# Altium schematic symbol library SamacSys.SchLib: 1311 symbols (part 12 of 14)
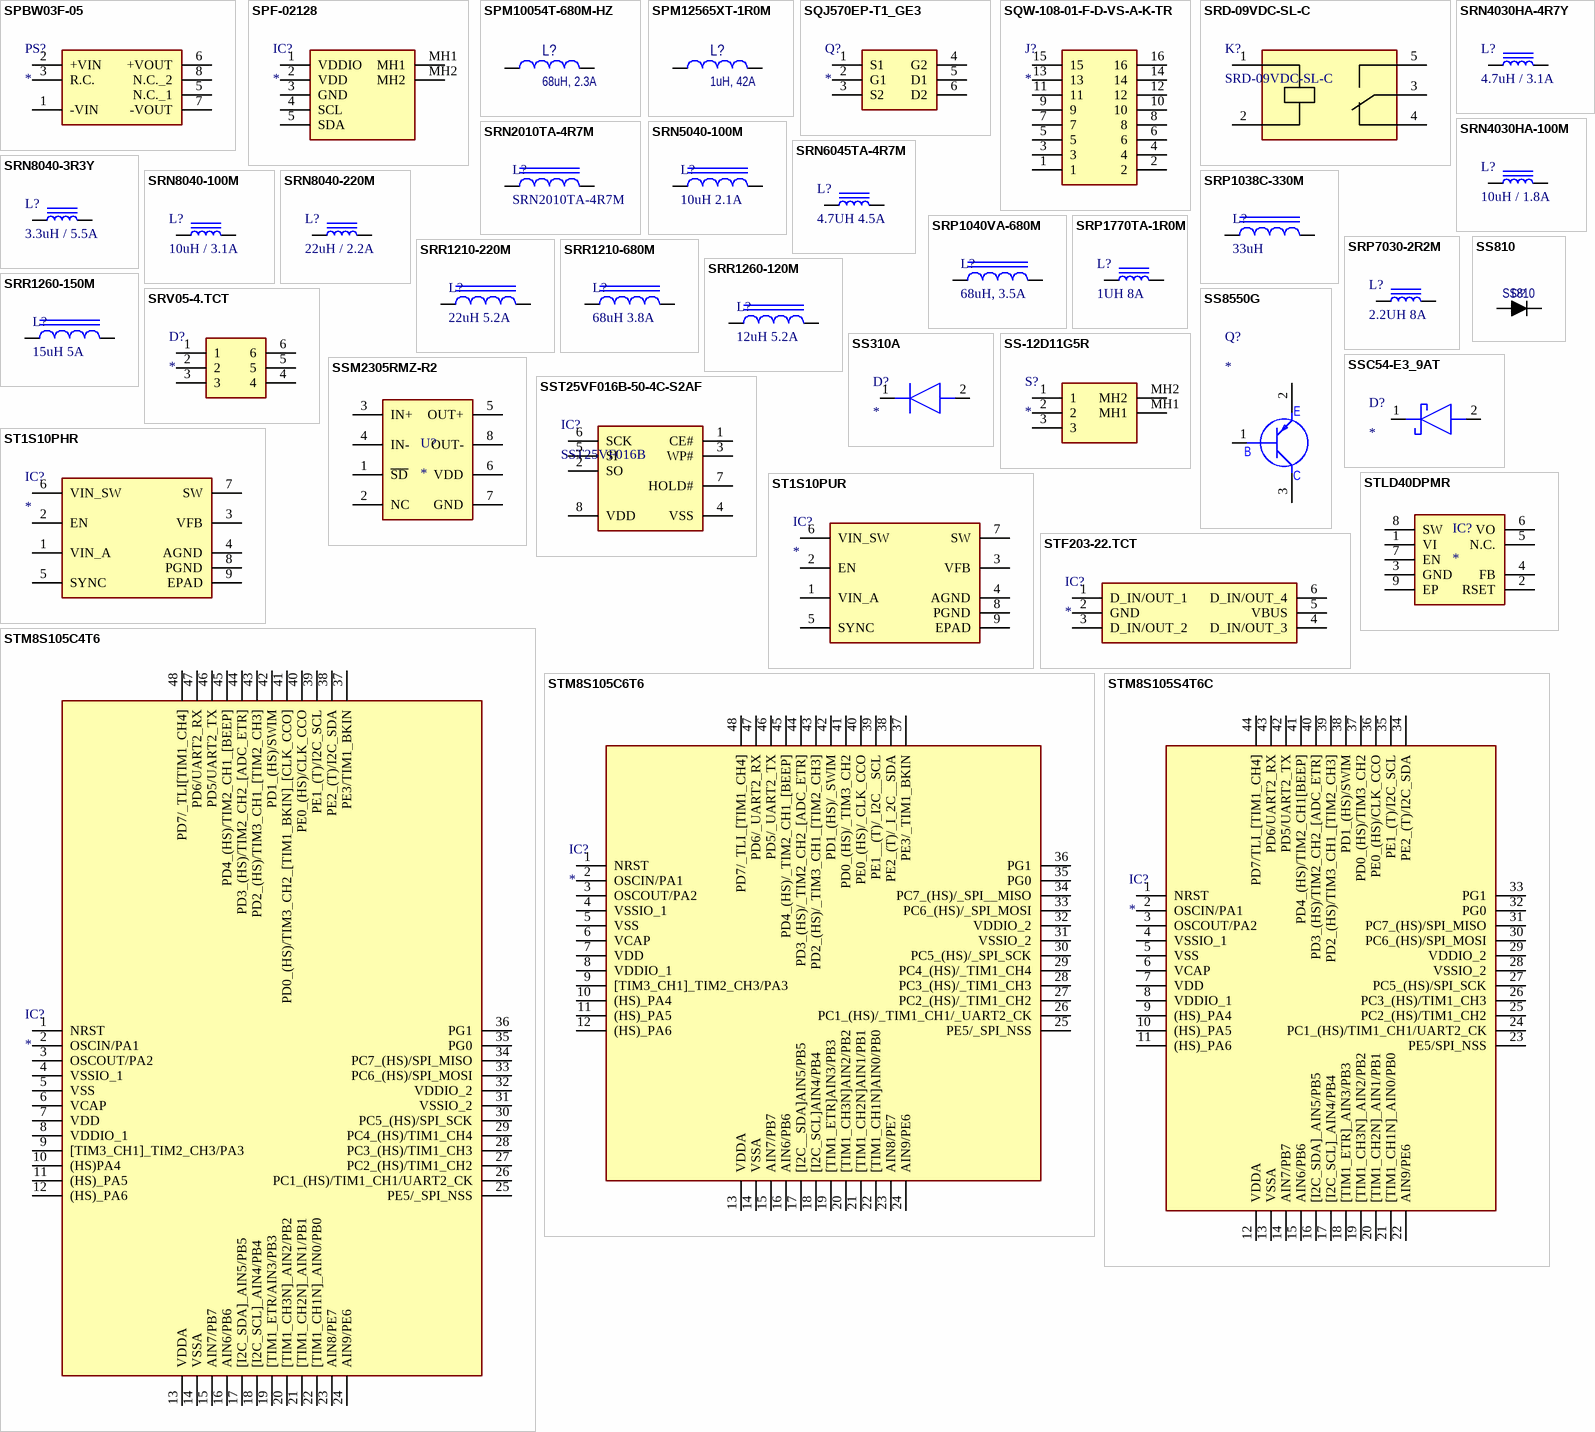
[diagram p61: symbols SPBW03F-05 to STM8S105S4T6C]

## SRN8040-220M
designator L?, comment 22uH / 2.2A
SMT Inductor, 22uH / 2.2A; Value: 22uH / 2.2A
footprint SRN8040
pins: 1, 2

## SRP1038C-330M
designator L?, comment 33uH
SMT Inductor, 33uH, 4A; Value: 33uH
footprint INDPM110100X420N
pins: 1, 2

## SRP1040VA-680M
designator L?, comment 68uH, 3.5A
SMT Inductor; Value: 68uH, 3.5A; Rated Current: 3.5A
footprint SRP1040VA-680M
pins: 1, 2

## SRP1770TA-1R0M
designator L?, comment 1UH 8A
FIXED IND 1UH 52A 0.016OHM SMD; Value: 1uH / 52A
footprint INDPM176169X700N
pins: 1, 2

## SRP7030-2R2M
designator L?, comment 2.2UH 8A
FIXED IND 2.2UH 8A 0.02OHM SMD; Value: 3.3uH / 5.5A
footprint INDPM7870X320N
pins: 1, 2

## SRR1210-220M
designator L?, comment 22uH 5.2A
SMT Inductor, 22uH 5.2A; Rated Current: 3.8A; Value: 22uH 5.2A
footprint SRR1210
pins: 1, 2

## SRR1210-680M
designator L?, comment 68uH 3.8A
SMT Inductor, 68uH 3.8A; Value: 68uH 3.8A; Rated Current: 3.8A
footprint SRR1210
pins: 1, 2

## SRR1260-120M
designator L?, comment 12uH 5.2A
SMT Inductor, 12uH 5.2A; Rated Current: 3.5A; Value: 12uH 5.2A
footprint SRR1260
pins: 1, 2

## SRR1260-150M
designator L?, comment 15uH 5A
SMT Inductor, 15uH 5A; Rated Current: 3.5A; Value: 15uH 5A
footprint SRR1260
pins: 1, 2

## SRV05-4.TCT
designator D?
TVS Diode (Uni-directional); Manufacturer_Name: SEMTECH; Manufacturer_Part_Number: SRV05-4.TCT; Datasheet Link: https://datasheet.datasheetarchive.com/originals/distributors/Datasheets-DGA26/1842016.pdf; Height: 1.45mm; Mouser Part Number: 947-SRV05-4.TCT; Mouser Price/Stock: https://www.mouser.co.uk/ProductDetail/Semtech/SRV05-4.TCT?qs=rBWM4%252BvDhIe0tfPjqKjR5Q%3D%3D; Arrow Part Number: SRV05-4.TCT; Arrow Price/Stock: https://www.arrow.com/en/products/srv05-4.tct/semtech?region=nac
footprint SOT95P280X145-6N
pins: 1, 2, 3, 4, 5, 6

## SS310A
designator D?
Diode; Manufacturer_Name: HY Electronic; Manufacturer_Part_Number: SS310A; Datasheet Link: https://4donline.ihs.com/images/VipMasterIC/IC/FECL/FECL-S-A0009071764/FECL-S-A0009071764-1.pdf?hkey=EF798316E3902B6ED9A73243A3159BB0; Height: 2.62mm
footprint DIOM5026X262N
pins: 1 K, 2 A

## SS810
designator D?, comment value SS810  (hidden comment: SK810)
DIODE SCHOTTKY 100V 8A DO214AB
footprint DO214AB
pins: 1 K, 2 A

## SS8550G
designator Q?
Transistor; Manufacturer_Name: Galaxy; Manufacturer_Part_Number: SS8550G; Height: 1.1mm
footprint SOT95P240X110-3N
pins: 1 B, 2 EMITTER, 3 COLLECTOR
text: E; C

## SS-12D11G5R
designator S?
Switch; Manufacturer_Name: XKB Connectivity; Manufacturer_Part_Number: SS-12D11G5R; Datasheet Link: http://www.helloxkb.com/public/images/pdf/SS-12D11XXX.pdf; Height: 6.9mm
footprint SS12D11G5R
pins: 1, 2, 3, MH1, MH2

## SSC54-E3_9AT
designator D?
Schottky Diode; Manufacturer_Name: Vishay; Manufacturer_Part_Number: SSC54-E3/9AT; Datasheet Link: https://www.vishay.com/docs/88885/ssc53l.pdf; Height: 2.62mm; Mouser Part Number: 625-SSC54-E3/9AT; Mouser Price/Stock: https://www.mouser.co.uk/ProductDetail/Vishay-General-Semiconductor/SSC54-E3-9AT?qs=x2jpVgRnAtO3JJETlWjmEQ%3D%3D; Arrow Part Number: SSC54-E3/9AT; Arrow Price/Stock: https://www.arrow.com/en/products/ssc54-e39at/vishay
footprint DIOM7959X262N
pins: 1 K, 2 A

## SSM2305RMZ-R2
designator U?
Integrated Circuit; Manufacturer_Name: Analog Devices; Manufacturer_Part_Number: SSM2305RMZ-R2; Datasheet Link: http://docs-emea.rs-online.com/webdocs/0de2/0900766b80de257f.pdf; Height: 1.1mm; Mouser Part Number: 584-SSM2305RMZ-R2; Mouser Price/Stock: https://www.mouser.com/Search/Refine.aspx?Keyword=584-SSM2305RMZ-R2; Arrow Part Number: SSM2305RMZ-R2; Arrow Price/Stock: https://www.arrow.com/en/products/ssm2305rmz-r2/analog-devices
footprint SOP65P490X110-8N
pins: 1 ~{SD}, 2 NC, 3 IN+, 4 IN-, 5 OUT+, 6 VDD, 7 GND, 8 OUT-

## SST25VF016B-50-4C-S2AF
designator IC?, comment SST25VF016B
IC FLASH 16MBIT SPI 50MHZ 8SOIC; Manufacturer_Name: Microchip; Manufacturer_Part_Number: SST25VF016B-50-4C-S2AF; Datasheet Link: https://ww1.microchip.com/downloads/en/DeviceDoc/20005044C.pdf; Height: 2.16mm; Mouser Part Number: 579-25VF016B504CS2AF; Mouser Price/Stock: https://www.mouser.co.uk/ProductDetail/Microchip-Technology-Atmel/SST25VF016B-50-4C-S2AF?qs=1RUxC5ic%2FMrPBUCcCO13YA%3D%3D; Arrow Part Number: SST25VF016B-50-4C-S2AF; Arrow Price/Stock: https://www.arrow.com/en/products/sst25vf016b-50-4c-s2af/microchip-technology?region=nac
footprint SOIC127P790X216-8N
pins: 1 CE#, 2 SO, 3 WP#, 4 VSS, 5 SI, 6 SCK, 7 HOLD#, 8 VDD

## ST1S10PHR
designator IC?
Integrated Circuit; Manufacturer_Name: STMicroelectronics; Manufacturer_Part_Number: ST1S10PHR; Datasheet Link: https://www.st.com/resource/en/datasheet/cd00169322.pdf; Height: 1.7mm; Mouser Part Number: 511-ST1S10PHR; Mouser Price/Stock: https://www.mouser.co.uk/ProductDetail/STMicroelectronics/ST1S10PHR?qs=qolwYojYp3QSBN7PdO5xhg%3D%3D; Arrow Part Number: ST1S10PHR; Arrow Price/Stock: https://www.arrow.com/en/products/st1s10phr/stmicroelectronics?region=nac
footprint ST1S10PHR
pins: 1 VIN_A, 2 EN, 3 VFB, 4 AGND, 5 SYNC, 6 VIN_SW, 7 SW, 8 PGND, 9 EPAD

## ST1S10PUR
designator IC?
Integrated Circuit; Manufacturer_Name: STMicroelectronics; Manufacturer_Part_Number: ST1S10PUR; Datasheet Link: http://www.st.com/web/en/resource/technical/document/datasheet/CD00169322.pdf; Height: 1mm; Mouser Part Number: 511-ST1S10PUR; Mouser Price/Stock: https://www.mouser.co.uk/ProductDetail/STMicroelectronics/ST1S10PUR?qs=z4PnFkYVEVm5N8HB9vh9zg%3D%3D; Arrow Part Number: ST1S10PUR; Arrow Price/Stock: https://www.arrow.com/en/products/st1s10pur/stmicroelectronics?region=nac
footprint SON80P400X400X100-9N-D
pins: 1 VIN_A, 2 EN, 3 VFB, 4 AGND, 5 SYNC, 6 VIN_SW, 7 SW, 8 PGND, 9 EPAD

## STF203-22.TCT
designator IC?
Integrated Circuit; Manufacturer_Name: SEMTECH; Manufacturer_Part_Number: STF203-22.TCT; Datasheet Link: https://componentsearchengine.com/Datasheets/2/STF203-22.TCT.pdf; Height: 1.1mm; Mouser Part Number: 947-STF203-22.TCT; Mouser Price/Stock: https://www.mouser.co.uk/ProductDetail/Semtech/STF203-22.TCT?qs=rBWM4%252BvDhIeTztOOK5QEzg%3D%3D; Arrow Part Number: STF203-22.TCT; Arrow Price/Stock: https://www.arrow.com/en/products/stf203-22.tct/semtech?region=nac
footprint SOT65P210X110-6N
pins: 1 D_IN/OUT_1, 2 GND, 3 D_IN/OUT_2, 4 D_IN/OUT_3, 5 VBUS, 6 D_IN/OUT_4

## STLD40DPMR
designator IC?
Integrated Circuit; Manufacturer_Name: STMicroelectronics; Manufacturer_Part_Number: STLD40DPMR; Datasheet Link: https://www.st.com/resource/en/datasheet/stld40d.pdf; Height: 1mm; Mouser Part Number: 511-STLD40DPMR; Mouser Price/Stock: https://www.mouser.com/Search/Refine.aspx?Keyword=511-STLD40DPMR
footprint SON65P300X300X100-9N-D
pins: 1 VI, 2 RSET, 3 GND, 4 FB, 5 N.C., 6 VO, 7 EN, 8 SW, 9 EP

## STM8S105C4T6
designator IC?
Integrated Circuit; Manufacturer_Name: STMicroelectronics; Manufacturer_Part_Number: STM8S105C4T6; Datasheet Link: http://www.st.com/st-web-ui/static/active/en/resource/technical/document/datasheet/CD00200092.pdf; Height: 1.6mm; Mouser Part Number: 511-STM8S105C4T6; Mouser Price/Stock: https://www.mouser.co.uk/ProductDetail/STMicroelectronics/STM8S105C4T6?qs=YSp3DhtTcU2ynIfTxGtKOA%3D%3D; Arrow Part Number: STM8S105C4T6; Arrow Price/Stock: https://www.arrow.com/en/products/stm8s105c4t6/stmicroelectronics
footprint QFP50P900X900X160-48N
pins: 1 NRST, 2 OSCIN/PA1, 3 OSCOUT/PA2, 4 VSSIO_1, 5 VSS, 6 VCAP, 7 VDD, 8 VDDIO_1, 9 [TIM3_CH1]_TIM2_CH3/PA3, 10 (HS)PA4, 11 (HS)_PA5, 12 (HS)_PA6, 13 VDDA, 14 VSSA, 15 AIN7/PB7, 16 AIN6/PB6, 17 [I2C_SDA]_AIN5/PB5, 18 [I2C_SCL]_AIN4/PB4, 19 [TIM1_ETR/AIN3/PB3, 20 [TIM1_CH3N]_AIN2/PB2, 21 [TIM1_CH2N]_AIN1/PB1, 22 [TIM1_CH1N]_AIN0/PB0, 23 AIN8/PE7, 24 AIN9/PE6, 25 PE5/_SPI_NSS, 26 PC1_(HS)/TIM1_CH1/UART2_CK, 27 PC2_(HS)/TIM1_CH2, 28 PC3_(HS)/TIM1_CH3, 29 PC4_(HS)/TIM1_CH4, 30 PC5_(HS)/SPI_SCK, 31 VSSIO_2, 32 VDDIO_2, 33 PC6_(HS)/SPI_MOSI, 34 PC7_(HS)/SPI_MISO, 35 PG0, 36 PG1, 37 PE3/TIM1_BKIN, 38 PE2_(T)/I2C_SDA, 39 PE1_(T)/I2C_SCL, 40 PE0_(HS)/CLK_CCO, 41 PD0_(HS)/TIM3_CH2_[TIM1_BKIN]_[CLK_CCO], 42 PD1_(HS)/SWIM, 43 PD2_(HS)/TIM3_CH1_[TIM2_CH3], 44 PD3_(HS)/TIM2_CH2_[ADC_ETR], 45 PD4_(HS)/TIM2_CH1_[BEEP], 46 PD5/UART2_TX, 47 PD6/UART2_RX, 48 PD7/_TLI[TIM1_CH4]

## STM8S105C6T6
designator IC?
Integrated Circuit; Manufacturer_Name: STMicroelectronics; Manufacturer_Part_Number: STM8S105C6T6; Datasheet Link: http://www.st.com/st-web-ui/static/active/en/resource/technical/document/datasheet/CD00200092.pdf; Height: 1.6mm; Mouser Part Number: 511-STM8S105C6T6; Mouser Price/Stock: https://www.mouser.co.uk/ProductDetail/STMicroelectronics/STM8S105C6T6?qs=YSp3DhtTcU0dfkIK6kZojw%3D%3D; Arrow Part Number: STM8S105C6T6; Arrow Price/Stock: https://www.arrow.com/en/products/stm8s105c6t6/stmicroelectronics
footprint QFP50P900X900X160-48N
pins: 1 NRST, 2 OSCIN/PA1, 3 OSCOUT/PA2, 4 VSSIO_1, 5 VSS, 6 VCAP, 7 VDD, 8 VDDIO_1, 9 [TIM3_CH1]_TIM2_CH3/PA3, 10 (HS)_PA4, 11 (HS)_PA5, 12 (HS)_PA6, 13 VDDA, 14 VSSA, 15 AIN7/PB7, 16 AIN6/PB6, 17 [I2C__SDA]AIN5/PB5, 18 [I2C_SCL]AIN4/PB4, 19 [TIM1_ETR]AIN3/PB3, 20 [TIM1_CH3N]AIN2/PB2, 21 [TIM1_CH2N]AIN1/PB1, 22 [TIM1_CH1N]AIN0/PB0, 23 AIN8/PE7, 24 AIN9/PE6, 25 PE5/_SPI_NSS, 26 PC1_(HS)/_TIM1_CH1/_UART2_CK, 27 PC2_(HS)/_TIM1_CH2, 28 PC3_(HS)/_TIM1_CH3, 29 PC4_(HS)/_TIM1_CH4, 30 PC5_(HS)/_SPI_SCK, 31 VSSIO_2, 32 VDDIO_2, 33 PC6_(HS)/_SPI_MOSI, 34 PC7_(HS)/_SPI__MISO, 35 PG0, 36 PG1, 37 PE3/_TIM1_BKIN, 38 PE2_(T)/_I_2C__SDA, 39 PE1__(T)/_I2C__SCL, 40 PE0_(HS)/_CLK_CCO, 41 PD0_(HS)/_TIM3_CH2, 42 PD1_(HS)/_SWIM, 43 PD2_(HS)/_TIM3_CH1_[TIM2_CH3], 44 PD3_(HS)/_TIM2_CH2_[ADC_ETR], 45 PD4_(HS)/_TIM2_CH1_[BEEP], 46 PD5/_UART2_TX, 47 PD6/_UART2_RX, 48 PD7/_TLI_[TIM1_CH4]

## STM8S105S4T6C
designator IC?
Integrated Circuit; Manufacturer_Name: STMicroelectronics; Manufacturer_Part_Number: STM8S105S4T6C; Datasheet Link: http://www.st.com/st-web-ui/static/active/en/resource/technical/document/datasheet/CD00200092.pdf; Height: 1.6mm; Mouser Part Number: 511-STM8S105S4T6C; Mouser Price/Stock: https://www.mouser.co.uk/ProductDetail/STMicroelectronics/STM8S105S4T6C?qs=YSp3DhtTcU2lUfT6hUqWAg%3D%3D; Arrow Part Number: STM8S105S4T6C; Arrow Price/Stock: https://www.arrow.com/en/products/stm8s105s4t6c/stmicroelectronics
footprint QFP80P1200X1200X160-44N
pins: 1 NRST, 2 OSCIN/PA1, 3 OSCOUT/PA2, 4 VSSIO_1, 5 VSS, 6 VCAP, 7 VDD, 8 VDDIO_1, 9 (HS)_PA4, 10 (HS)_PA5, 11 (HS)_PA6, 12 VDDA, 13 VSSA, 14 AIN7/PB7, 15 AIN6/PB6, 16 [I2C_SDA]_AIN5/PB5, 17 [I2C_SCL]_AIN4/PB4, 18 [TIM1_ETR]_AIN3/PB3, 19 [TIM1_CH3N]_AIN2/PB2, 20 [TIM1_CH2N]_AIN1/PB1, 21 [TIM1_CH1N]_AIN0/PB0, 22 AIN9/PE6, 23 PE5/SPI_NSS, 24 PC1_(HS)/TIM1_CH1/UART2_CK, 25 PC2_(HS)/TIM1_CH2, 26 PC3_(HS)/TIM1_CH3, 27 PC5_(HS)/SPI_SCK, 28 VSSIO_2, 29 VDDIO_2, 30 PC6_(HS)/SPI_MOSI, 31 PC7_(HS)/SPI_MISO, 32 PG0, 33 PG1, 34 PE2_(T)/I2C_SDA, 35 PE1_(T)/I2C_SCL, 36 PE0_(HS)/CLK_CCO, 37 PD0_(HS)/TIM3_CH2, 38 PD1_(HS)/SWIM, 39 PD2_(HS)/TIM3_CH1_[TIM2_CH3], 40 PD3_(HS)/TIM2_CH2_[ADC_ETR], 41 PD4_(HS)/TIM2_CH1[BEEP], 42 PD5/UART2_TX, 43 PD6/UART2_RX, 44 PD7/TLI_[TIM1_CH4]

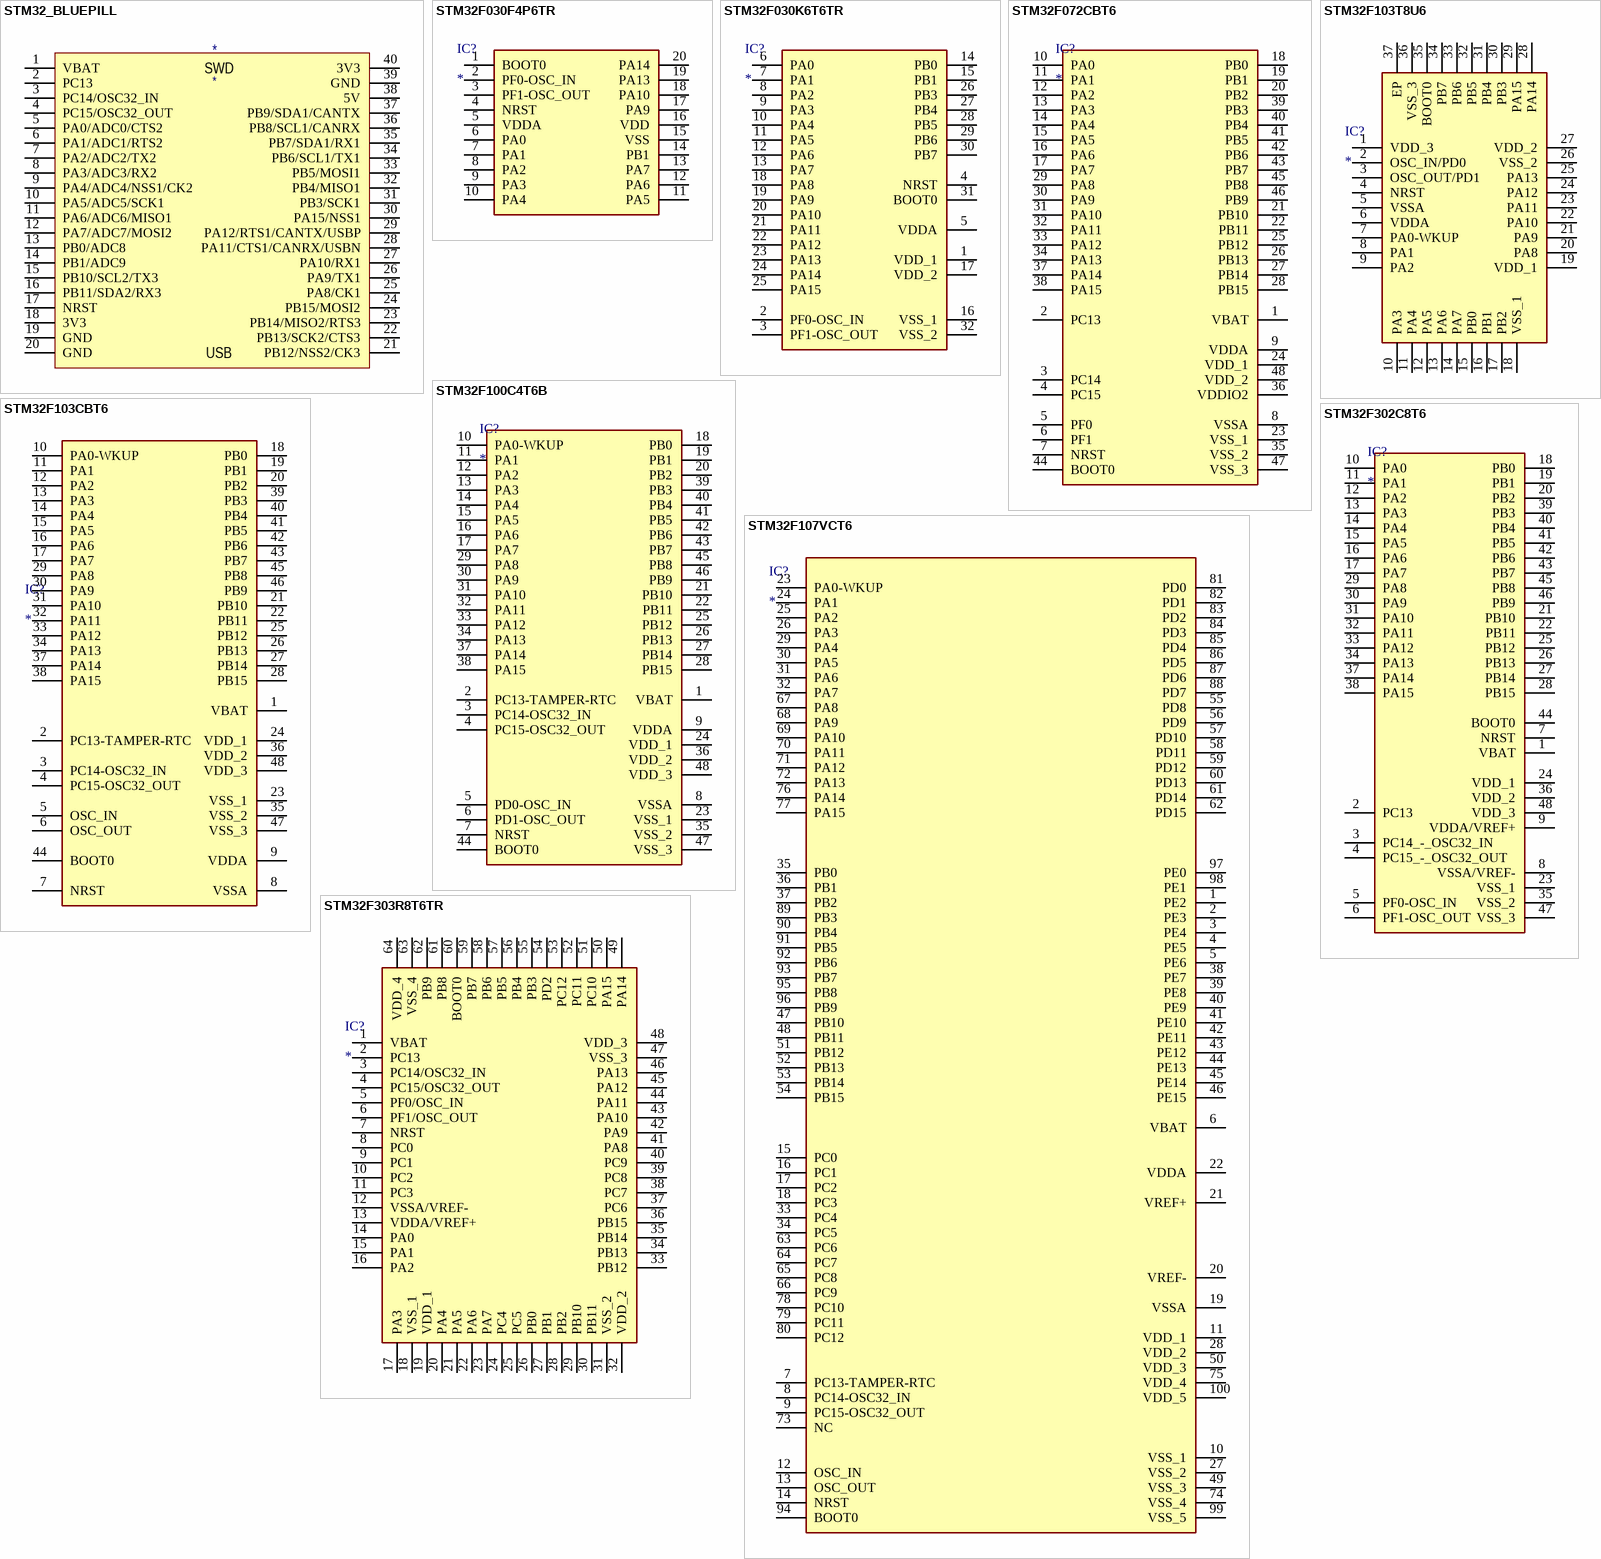
[diagram p41: symbols STM32_BLUEPILL to STM32F303R8T6TR]

## STM32_BLUEPILL
designator *
footprint STM32_BLUEPILL
pins: 1 VBAT, 2 PC13, 3 PC14/OSC32_IN, 4 PC15/OSC32_OUT, 5 PA0/ADC0/CTS2, 6 PA1/ADC1/RTS2, 7 PA2/ADC2/TX2, 8 PA3/ADC3/RX2, 9 PA4/ADC4/NSS1/CK2, 10 PA5/ADC5/SCK1, 11 PA6/ADC6/MISO1, 12 PA7/ADC7/MOSI2, 13 PB0/ADC8, 14 PB1/ADC9, 15 PB10/SCL2/TX3, 16 PB11/SDA2/RX3, 17 NRST, 18 3V3, 19 GND, 20 GND, 21 PB12/NSS2/CK3, 22 PB13/SCK2/CTS3, 23 PB14/MISO2/RTS3, 24 PB15/MOSI2, 25 PA8/CK1, 26 PA9/TX1, 27 PA10/RX1, 28 PA11/CTS1/CANRX/USBN, 29 PA12/RTS1/CANTX/USBP, 30 PA15/NSS1, 31 PB3/SCK1, 32 PB4/MISO1, 33 PB5/MOSI1, 34 PB6/SCL1/TX1, 35 PB7/SDA1/RX1, 36 PB8/SCL1/CANRX, 37 PB9/SDA1/CANTX, 38 5V, 39 GND, 40 3V3
text: SWD; USB

## STM32F030F4P6TR
designator IC?
Integrated Circuit; Manufacturer_Name: STMicroelectronics; Manufacturer_Part_Number: STM32F030F4P6TR; Datasheet Link: https://www.st.com/resource/en/datasheet/stm32f030rc.pdf; Height: 1.2mm; Mouser Part Number: 511-STM32F030F4P6TR; Mouser Price/Stock: https://www.mouser.co.uk/ProductDetail/STMicroelectronics/STM32F030F4P6TR?qs=MavH1QghrkE4yfyLOfvVsw%3D%3D; Arrow Part Number: STM32F030F4P6TR; Arrow Price/Stock: https://www.arrow.com/en/products/stm32f030f4p6tr/stmicroelectronics?utm_currency=USD&region=nac
footprint SOP65P640X120-20N
pins: 1 BOOT0, 2 PF0-OSC_IN, 3 PF1-OSC_OUT, 4 NRST, 5 VDDA, 6 PA0, 7 PA1, 8 PA2, 9 PA3, 10 PA4, 11 PA5, 12 PA6, 13 PA7, 14 PB1, 15 VSS, 16 VDD, 17 PA9, 18 PA10, 19 PA13, 20 PA14

## STM32F030K6T6TR
designator IC?
Integrated Circuit; Manufacturer_Name: STMicroelectronics; Manufacturer_Part_Number: STM32F030K6T6TR; Datasheet Link: http://www.st.com/content/ccc/resource/technical/document/datasheet/a4/5d/0b/0e/87/c4/4d/71/DM00088500.pdf/files/DM00088500.pdf/jcr:content/translations/en.DM00088500.pdf; Height: 1.6mm; Mouser Part Number: 511-STM32F030K6T6TR; Mouser Price/Stock: https://www.mouser.co.uk/ProductDetail/STMicroelectronics/STM32F030K6T6TR?qs=9MuLHSklicort60U4QZudQ%3D%3D; Arrow Part Number: STM32F030K6T6TR; Arrow Price/Stock: https://www.arrow.com/en/products/stm32f030k6t6tr/stmicroelectronics
footprint QFP80P900X900X160-32N
pins: 1 VDD_1, 2 PF0-OSC_IN, 3 PF1-OSC_OUT, 4 NRST, 5 VDDA, 6 PA0, 7 PA1, 8 PA2, 9 PA3, 10 PA4, 11 PA5, 12 PA6, 13 PA7, 14 PB0, 15 PB1, 16 VSS_1, 17 VDD_2, 18 PA8, 19 PA9, 20 PA10, 21 PA11, 22 PA12, 23 PA13, 24 PA14, 25 PA15, 26 PB3, 27 PB4, 28 PB5, 29 PB6, 30 PB7, 31 BOOT0, 32 VSS_2

## STM32F072CBT6
designator IC?
Integrated Circuit; Manufacturer_Name: STMicroelectronics; Manufacturer_Part_Number: STM32F072CBT6; Datasheet Link: http://www.farnell.com/datasheets/2006534.pdf; Height: 1.6mm; Mouser Part Number: 511-STM32F072CBT6; Mouser Price/Stock: https://www.mouser.co.uk/ProductDetail/STMicroelectronics/STM32F072CBT6?qs=xf9JV0PLFEfBqXx8wKtR8A%3D%3D; Arrow Part Number: STM32F072CBT6; Arrow Price/Stock: https://www.arrow.com/en/products/stm32f072cbt6/stmicroelectronics?region=europe
footprint QFP50P900X900X160-48N
pins: 1 VBAT, 2 PC13, 3 PC14, 4 PC15, 5 PF0, 6 PF1, 7 NRST, 8 VSSA, 9 VDDA, 10 PA0, 11 PA1, 12 PA2, 13 PA3, 14 PA4, 15 PA5, 16 PA6, 17 PA7, 18 PB0, 19 PB1, 20 PB2, 21 PB10, 22 PB11, 23 VSS_1, 24 VDD_1, 25 PB12, 26 PB13, 27 PB14, 28 PB15, 29 PA8, 30 PA9, 31 PA10, 32 PA11, 33 PA12, 34 PA13, 35 VSS_2, 36 VDDIO2, 37 PA14, 38 PA15, 39 PB3, 40 PB4, 41 PB5, 42 PB6, 43 PB7, 44 BOOT0, 45 PB8, 46 PB9, 47 VSS_3, 48 VDD_2

## STM32F100C4T6B
designator IC?
Integrated Circuit; Manufacturer_Name: STMicroelectronics; Manufacturer_Part_Number: STM32F100C4T6B; Datasheet Link: http://www.st.com/st-web-ui/static/active/en/resource/technical/document/datasheet/CD00251732.pdf; Height: 1.6mm; Mouser Part Number: 511-STM32F100C4T6B; Mouser Price/Stock: https://www.mouser.co.uk/ProductDetail/STMicroelectronics/STM32F100C4T6B?qs=eF7XX6ARXFFtbu%2FwaPrRxg%3D%3D; Arrow Part Number: STM32F100C4T6B; Arrow Price/Stock: https://www.arrow.com/en/products/stm32f100c4t6b/stmicroelectronics?region=europe
footprint QFP50P900X900X160-48N
pins: 1 VBAT, 2 PC13-TAMPER-RTC, 3 PC14-OSC32_IN, 4 PC15-OSC32_OUT, 5 PD0-OSC_IN, 6 PD1-OSC_OUT, 7 NRST, 8 VSSA, 9 VDDA, 10 PA0-WKUP, 11 PA1, 12 PA2, 13 PA3, 14 PA4, 15 PA5, 16 PA6, 17 PA7, 18 PB0, 19 PB1, 20 PB2, 21 PB10, 22 PB11, 23 VSS_1, 24 VDD_1, 25 PB12, 26 PB13, 27 PB14, 28 PB15, 29 PA8, 30 PA9, 31 PA10, 32 PA11, 33 PA12, 34 PA13, 35 VSS_2, 36 VDD_2, 37 PA14, 38 PA15, 39 PB3, 40 PB4, 41 PB5, 42 PB6, 43 PB7, 44 BOOT0, 45 PB8, 46 PB9, 47 VSS_3, 48 VDD_3

## STM32F103CBT6
designator IC?
Integrated Circuit; Manufacturer_Name: STMicroelectronics; Manufacturer_Part_Number: STM32F103CBT6; Datasheet Link: http://www.st.com/st-web-ui/static/active/en/resource/technical/document/datasheet/CD00161566.pdf; Height: 1.6mm; Mouser Part Number: 511-STM32F103CBT6; Mouser Price/Stock: https://www.mouser.co.uk/ProductDetail/STMicroelectronics/STM32F103CBT6?qs=WxFF5lh7QM3goh6GV5Ogig%3D%3D; Arrow Part Number: STM32F103CBT6; Arrow Price/Stock: https://www.arrow.com/en/products/stm32f103cbt6/stmicroelectronics?region=nac
footprint QFP50P900X900X160-48N
pins: 1 VBAT, 2 PC13-TAMPER-RTC, 3 PC14-OSC32_IN, 4 PC15-OSC32_OUT, 5 OSC_IN, 6 OSC_OUT, 7 NRST, 8 VSSA, 9 VDDA, 10 PA0-WKUP, 11 PA1, 12 PA2, 13 PA3, 14 PA4, 15 PA5, 16 PA6, 17 PA7, 18 PB0, 19 PB1, 20 PB2, 21 PB10, 22 PB11, 23 VSS_1, 24 VDD_1, 25 PB12, 26 PB13, 27 PB14, 28 PB15, 29 PA8, 30 PA9, 31 PA10, 32 PA11, 33 PA12, 34 PA13, 35 VSS_2, 36 VDD_2, 37 PA14, 38 PA15, 39 PB3, 40 PB4, 41 PB5, 42 PB6, 43 PB7, 44 BOOT0, 45 PB8, 46 PB9, 47 VSS_3, 48 VDD_3

## STM32F103T8U6
designator IC?
Integrated Circuit; Manufacturer_Name: STMicroelectronics; Manufacturer_Part_Number: STM32F103T8U6; Datasheet Link: http://www.st.com/st-web-ui/static/active/en/resource/technical/document/datasheet/CD00161566.pdf; Height: 1mm; Mouser Part Number: 511-STM32F103T8U6; Mouser Price/Stock: https://www.mouser.co.uk/ProductDetail/STMicroelectronics/STM32F103T8U6?qs=TaOZSEYtRiWNjawIhjImDQ%3D%3D; Arrow Part Number: STM32F103T8U6; Arrow Price/Stock: https://www.arrow.com/en/products/stm32f103t8u6/stmicroelectronics?utm_currency=USD&region=nac
footprint QFN50P600X600X100-37N-D
pins: 1 VDD_3, 2 OSC_IN/PD0, 3 OSC_OUT/PD1, 4 NRST, 5 VSSA, 6 VDDA, 7 PA0-WKUP, 8 PA1, 9 PA2, 10 PA3, 11 PA4, 12 PA5, 13 PA6, 14 PA7, 15 PB0, 16 PB1, 17 PB2, 18 VSS_1, 19 VDD_1, 20 PA8, 21 PA9, 22 PA10, 23 PA11, 24 PA12, 25 PA13, 26 VSS_2, 27 VDD_2, 28 PA14, 29 PA15, 30 PB3, 31 PB4, 32 PB5, 33 PB6, 34 PB7, 35 BOOT0, 36 VSS_3, 37 EP

## STM32F107VCT6
designator IC?
Integrated Circuit; Manufacturer_Name: STMicroelectronics; Manufacturer_Part_Number: STM32F107VCT6; Datasheet Link: https://www.st.com/resource/en/datasheet/stm32f105r8.pdf; Height: 1.6mm; Mouser Part Number: 511-STM32F107VCT6; Mouser Price/Stock: https://www.mouser.co.uk/ProductDetail/STMicroelectronics/STM32F107VCT6?qs=1XJIe8X6XT1KmS9%252Be0Uqlg%3D%3D; Arrow Part Number: STM32F107VCT6; Arrow Price/Stock: https://www.arrow.com/en/products/stm32f107vct6/stmicroelectronics?region=nac
footprint QFP50P1600X1600X160-100N
pins: 1 PE2, 2 PE3, 3 PE4, 4 PE5, 5 PE6, 6 VBAT (power), 7 PC13-TAMPER-RTC, 8 PC14-OSC32_IN, 9 PC15-OSC32_OUT, 10 VSS_1 (power), 11 VDD_1 (power), 12 OSC_IN, 13 OSC_OUT, 14 NRST, 15 PC0, 16 PC1, 17 PC2, 18 PC3, 19 VSSA (power), 20 VREF- (power), 21 VREF+ (power), 22 VDDA (power), 23 PA0-WKUP, 24 PA1, 25 PA2, 26 PA3, 27 VSS_2 (power), 28 VDD_2 (power), 29 PA4, 30 PA5, 31 PA6, 32 PA7, 33 PC4, 34 PC5, 35 PB0, 36 PB1, 37 PB2, 38 PE7, 39 PE8, 40 PE9, 41 PE10, 42 PE11, 43 PE12, 44 PE13, 45 PE14, 46 PE15, 47 PB10, 48 PB11, 49 VSS_3 (power), 50 VDD_3 (power), 51 PB12, 52 PB13, 53 PB14, 54 PB15, 55 PD8, 56 PD9, 57 PD10, 58 PD11, 59 PD12, 60 PD13, 61 PD14, 62 PD15, 63 PC6, 64 PC7, 65 PC8, 66 PC9, 67 PA8, 68 PA9, 69 PA10, 70 PA11, 71 PA12, 72 PA13, 73 NC, 74 VSS_4 (power), 75 VDD_4 (power), 76 PA14, 77 PA15, 78 PC10, 79 PC11, 80 PC12, 81 PD0, 82 PD1, 83 PD2, 84 PD3, 85 PD4, 86 PD5, 87 PD6, 88 PD7, 89 PB3, 90 PB4, 91 PB5, 92 PB6, 93 PB7, 94 BOOT0, 95 PB8, 96 PB9, 97 PE0, 98 PE1, 99 VSS_5 (power), 100 VDD_5 (power)

## STM32F302C8T6
designator IC?
Integrated Circuit; Manufacturer_Name: STMicroelectronics; Manufacturer_Part_Number: STM32F302C8T6; Datasheet Link: http://www.st.com/content/ccc/resource/technical/document/datasheet/e4/06/d5/04/58/af/41/14/DM00093333.pdf/files/DM00093333.pdf/jcr:content/translations/en.DM00093333.pdf; Height: 1.6mm; Mouser Part Number: 511-STM32F302C8T6; Mouser Price/Stock: https://www.mouser.co.uk/ProductDetail/STMicroelectronics/STM32F302C8T6?qs=F5OEftmZcCDUtHR76ET77A%3D%3D; Arrow Part Number: STM32F302C8T6; Arrow Price/Stock: https://www.arrow.com/en/products/stm32f302c8t6/stmicroelectronics
footprint QFP50P900X900X160-48N
pins: 1 VBAT (power), 2 PC13, 3 PC14_-_OSC32_IN, 4 PC15_-_OSC32_OUT, 5 PF0-OSC_IN, 6 PF1-OSC_OUT, 7 NRST, 8 VSSA/VREF- (power), 9 VDDA/VREF+ (power), 10 PA0, 11 PA1, 12 PA2, 13 PA3, 14 PA4, 15 PA5, 16 PA6, 17 PA7, 18 PB0, 19 PB1, 20 PB2, 21 PB10, 22 PB11, 23 VSS_1 (power), 24 VDD_1 (power), 25 PB12, 26 PB13, 27 PB14, 28 PB15, 29 PA8, 30 PA9, 31 PA10, 32 PA11, 33 PA12, 34 PA13, 35 VSS_2 (power), 36 VDD_2 (power), 37 PA14, 38 PA15, 39 PB3, 40 PB4, 41 PB5, 42 PB6, 43 PB7, 44 BOOT0, 45 PB8, 46 PB9, 47 VSS_3 (power), 48 VDD_3 (power)

## STM32F303R8T6TR
designator IC?
Integrated Circuit; Manufacturer_Name: STMicroelectronics; Manufacturer_Part_Number: STM32F303R8T6TR; Datasheet Link: http://www.st.com/content/ccc/resource/technical/document/datasheet/group3/38/c6/ca/d1/f7/d5/4e/30/DM00092070/files/DM00092070.pdf/jcr:content/translations/en.DM00092070.pdf; Height: 1.6mm; Mouser Part Number: 511-STM32F303R8T6TR; Mouser Price/Stock: https://www.mouser.co.uk/ProductDetail/STMicroelectronics/STM32F303R8T6TR/?qs=Mv7BduZupUhh%2FFuiSoO91A%3D%3D; Arrow Part Number: STM32F303R8T6TR; Arrow Price/Stock: https://www.arrow.com/en/products/stm32f303r8t6tr/stmicroelectronics
footprint QFP50P1200X1200X160-64N
pins: 1 VBAT, 2 PC13, 3 PC14/OSC32_IN, 4 PC15/OSC32_OUT, 5 PF0/OSC_IN, 6 PF1/OSC_OUT, 7 NRST, 8 PC0, 9 PC1, 10 PC2, 11 PC3, 12 VSSA/VREF-, 13 VDDA/VREF+, 14 PA0, 15 PA1, 16 PA2, 17 PA3, 18 VSS_1, 19 VDD_1, 20 PA4, 21 PA5, 22 PA6, 23 PA7, 24 PC4, 25 PC5, 26 PB0, 27 PB1, 28 PB2, 29 PB10, 30 PB11, 31 VSS_2, 32 VDD_2, 33 PB12, 34 PB13, 35 PB14, 36 PB15, 37 PC6, 38 PC7, 39 PC8, 40 PC9, 41 PA8, 42 PA9, 43 PA10, 44 PA11, 45 PA12, 46 PA13, 47 VSS_3, 48 VDD_3, 49 PA14, 50 PA15, 51 PC10, 52 PC11, 53 PC12, 54 PD2, 55 PB3, 56 PB4, 57 PB5, 58 PB6, 59 PB7, 60 BOOT0, 61 PB8, 62 PB9, 63 VSS_4, 64 VDD_4

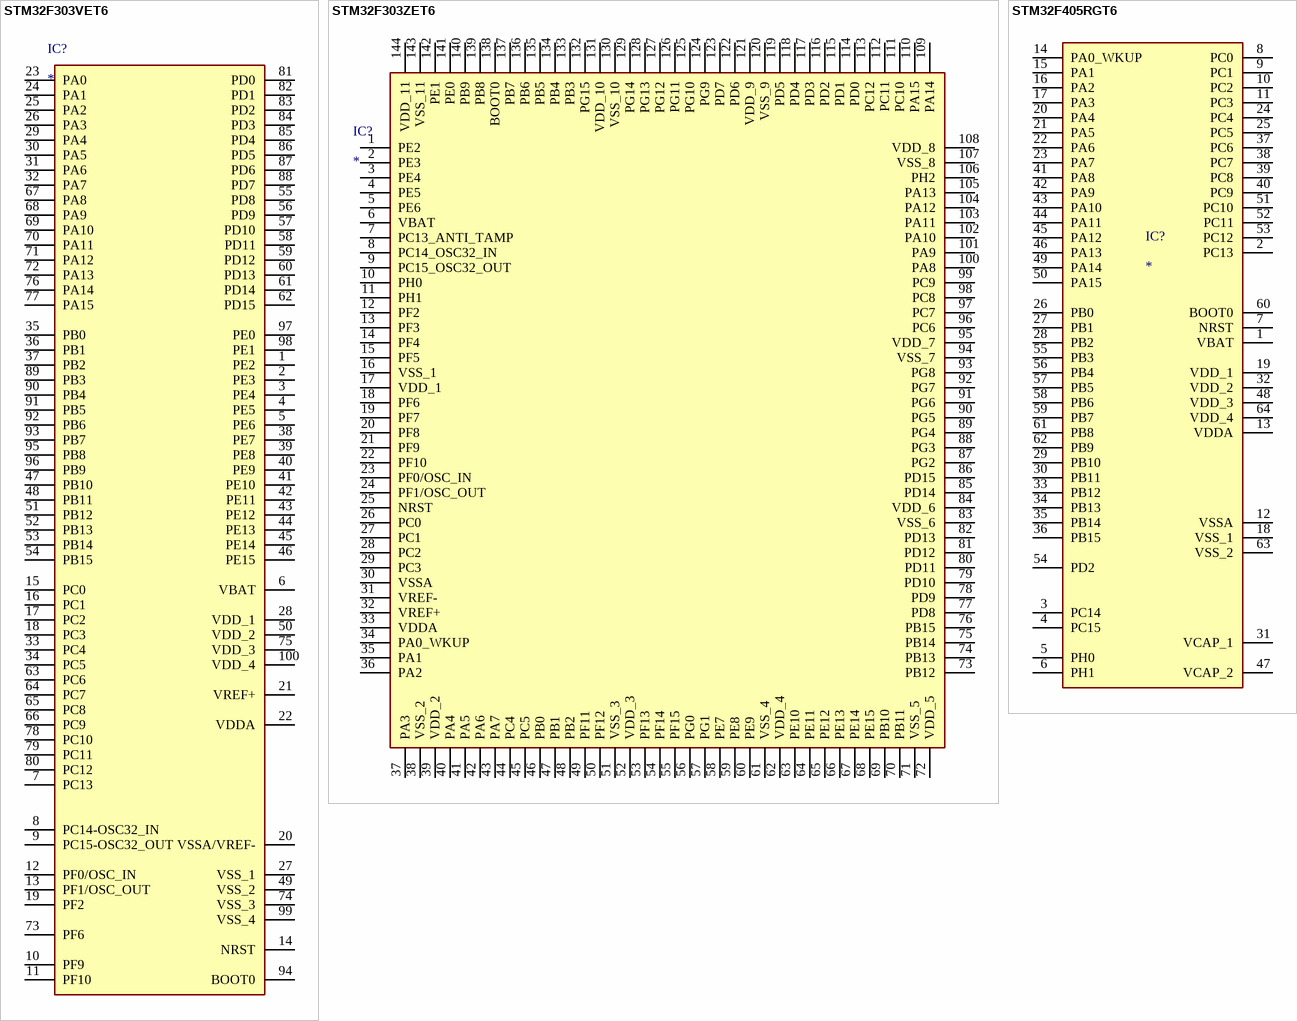
[diagram p42: symbols STM32F303VET6 to STM32F405RGT6]

## STM32F303VET6
designator IC?
Integrated Circuit; Manufacturer_Name: STMicroelectronics; Manufacturer_Part_Number: STM32F303VET6; Datasheet Link: https://www.st.com/resource/en/datasheet/stm32f303re.pdf; Height: 1.6mm; Mouser Part Number: 511-STM32F303VET6; Mouser Price/Stock: https://www.mouser.co.uk/ProductDetail/STMicroelectronics/STM32F303VET6?qs=iEvsikg1EVwcae%2FGytZd7A%3D%3D; Arrow Part Number: STM32F303VET6; Arrow Price/Stock: https://www.arrow.com/en/products/stm32f303vet6/stmicroelectronics?region=nac
footprint QFP50P1600X1600X160-100N
pins: 1 PE2, 2 PE3, 3 PE4, 4 PE5, 5 PE6, 6 VBAT, 7 PC13, 8 PC14-OSC32_IN, 9 PC15-OSC32_OUT, 10 PF9, 11 PF10, 12 PF0/OSC_IN, 13 PF1/OSC_OUT, 14 NRST, 15 PC0, 16 PC1, 17 PC2, 18 PC3, 19 PF2, 20 VSSA/VREF-, 21 VREF+, 22 VDDA, 23 PA0, 24 PA1, 25 PA2, 26 PA3, 27 VSS_1, 28 VDD_1, 29 PA4, 30 PA5, 31 PA6, 32 PA7, 33 PC4, 34 PC5, 35 PB0, 36 PB1, 37 PB2, 38 PE7, 39 PE8, 40 PE9, 41 PE10, 42 PE11, 43 PE12, 44 PE13, 45 PE14, 46 PE15, 47 PB10, 48 PB11, 49 VSS_2, 50 VDD_2, 51 PB12, 52 PB13, 53 PB14, 54 PB15, 55 PD8, 56 PD9, 57 PD10, 58 PD11, 59 PD12, 60 PD13, 61 PD14, 62 PD15, 63 PC6, 64 PC7, 65 PC8, 66 PC9, 67 PA8, 68 PA9, 69 PA10, 70 PA11, 71 PA12, 72 PA13, 73 PF6, 74 VSS_3, 75 VDD_3, 76 PA14, 77 PA15, 78 PC10, 79 PC11, 80 PC12, 81 PD0, 82 PD1, 83 PD2, 84 PD3, 85 PD4, 86 PD5, 87 PD6, 88 PD7, 89 PB3, 90 PB4, 91 PB5, 92 PB6, 93 PB7, 94 BOOT0, 95 PB8, 96 PB9, 97 PE0, 98 PE1, 99 VSS_4, 100 VDD_4

## STM32F303ZET6
designator IC?
Integrated Circuit; Manufacturer_Name: STMicroelectronics; Manufacturer_Part_Number: STM32F303ZET6; Datasheet Link: https://www.mouser.com/datasheet/2/389/stm32f303re-956235.pdf; Height: 1.6mm; Mouser Part Number: 511-STM32F303ZET6; Mouser Price/Stock: https://www.mouser.co.uk/ProductDetail/STMicroelectronics/STM32F303ZET6/?qs=iEvsikg1EVzOwGfbpy08jw%3D%3D; Arrow Part Number: STM32F303ZET6; Arrow Price/Stock: https://www.arrow.com/en/products/stm32f303zet6/stmicroelectronics
footprint QFP50P2200X2200X160-144N
pins: 1 PE2, 2 PE3, 3 PE4, 4 PE5, 5 PE6, 6 VBAT, 7 PC13_ANTI_TAMP, 8 PC14_OSC32_IN, 9 PC15_OSC32_OUT, 10 PH0, 11 PH1, 12 PF2, 13 PF3, 14 PF4, 15 PF5, 16 VSS_1, 17 VDD_1, 18 PF6, 19 PF7, 20 PF8, 21 PF9, 22 PF10, 23 PF0/OSC_IN, 24 PF1/OSC_OUT, 25 NRST, 26 PC0, 27 PC1, 28 PC2, 29 PC3, 30 VSSA, 31 VREF-, 32 VREF+, 33 VDDA, 34 PA0_WKUP, 35 PA1, 36 PA2, 37 PA3, 38 VSS_2, 39 VDD_2, 40 PA4, 41 PA5, 42 PA6, 43 PA7, 44 PC4, 45 PC5, 46 PB0, 47 PB1, 48 PB2, 49 PF11, 50 PF12, 51 VSS_3, 52 VDD_3, 53 PF13, 54 PF14, 55 PF15, 56 PG0, 57 PG1, 58 PE7, 59 PE8, 60 PE9, 61 VSS_4, 62 VDD_4, 63 PE10, 64 PE11, 65 PE12, 66 PE13, 67 PE14, 68 PE15, 69 PB10, 70 PB11, 71 VSS_5, 72 VDD_5, 73 PB12, 74 PB13, 75 PB14, 76 PB15, 77 PD8, 78 PD9, 79 PD10, 80 PD11, 81 PD12, 82 PD13, 83 VSS_6, 84 VDD_6, 85 PD14, 86 PD15, 87 PG2, 88 PG3, 89 PG4, 90 PG5, 91 PG6, 92 PG7, 93 PG8, 94 VSS_7, 95 VDD_7, 96 PC6, 97 PC7, 98 PC8, 99 PC9, 100 PA8, 101 PA9, 102 PA10, 103 PA11, 104 PA12, 105 PA13, 106 PH2, 107 VSS_8, 108 VDD_8, 109 PA14, 110 PA15, 111 PC10, 112 PC11, 113 PC12, 114 PD0, 115 PD1, 116 PD2, 117 PD3, 118 PD4, 119 PD5, 120 VSS_9, 121 VDD_9, 122 PD6, 123 PD7, 124 PG9, 125 PG10, 126 PG11, 127 PG12, 128 PG13, 129 PG14, 130 VSS_10, 131 VDD_10, 132 PG15, 133 PB3, 134 PB4, 135 PB5, 136 PB6, 137 PB7, 138 BOOT0, 139 PB8, 140 PB9, 141 PE0, 142 PE1, 143 VSS_11, 144 VDD_11

## STM32F405RGT6
designator IC?
Integrated Circuit; Manufacturer_Name: STMicroelectronics; Manufacturer_Part_Number: STM32F405RGT6; Datasheet Link: http://www.st.com/web/en/resource/technical/document/datasheet/DM00037051.pdf; Height: 1.6mm; Mouser Part Number: 511-STM32F405RGT6; Mouser Price/Stock: https://www.mouser.co.uk/ProductDetail/STMicroelectronics/STM32F405RGT6?qs=Z8%252BeY1k3TIKgj7QWsYGpQw%3D%3D; Arrow Part Number: STM32F405RGT6; Arrow Price/Stock: https://www.arrow.com/en/products/stm32f405rgt6/stmicroelectronics?region=nac
footprint QFP50P1200X1200X160-64N
pins: 1 VBAT, 2 PC13, 3 PC14, 4 PC15, 5 PH0, 6 PH1, 7 NRST, 8 PC0, 9 PC1, 10 PC2, 11 PC3, 12 VSSA, 13 VDDA, 14 PA0_WKUP, 15 PA1, 16 PA2, 17 PA3, 18 VSS_1, 19 VDD_1, 20 PA4, 21 PA5, 22 PA6, 23 PA7, 24 PC4, 25 PC5, 26 PB0, 27 PB1, 28 PB2, 29 PB10, 30 PB11, 31 VCAP_1, 32 VDD_2, 33 PB12, 34 PB13, 35 PB14, 36 PB15, 37 PC6, 38 PC7, 39 PC8, 40 PC9, 41 PA8, 42 PA9, 43 PA10, 44 PA11, 45 PA12, 46 PA13, 47 VCAP_2, 48 VDD_3, 49 PA14, 50 PA15, 51 PC10, 52 PC11, 53 PC12, 54 PD2, 55 PB3, 56 PB4, 57 PB5, 58 PB6, 59 PB7, 60 BOOT0, 61 PB8, 62 PB9, 63 VSS_2, 64 VDD_4

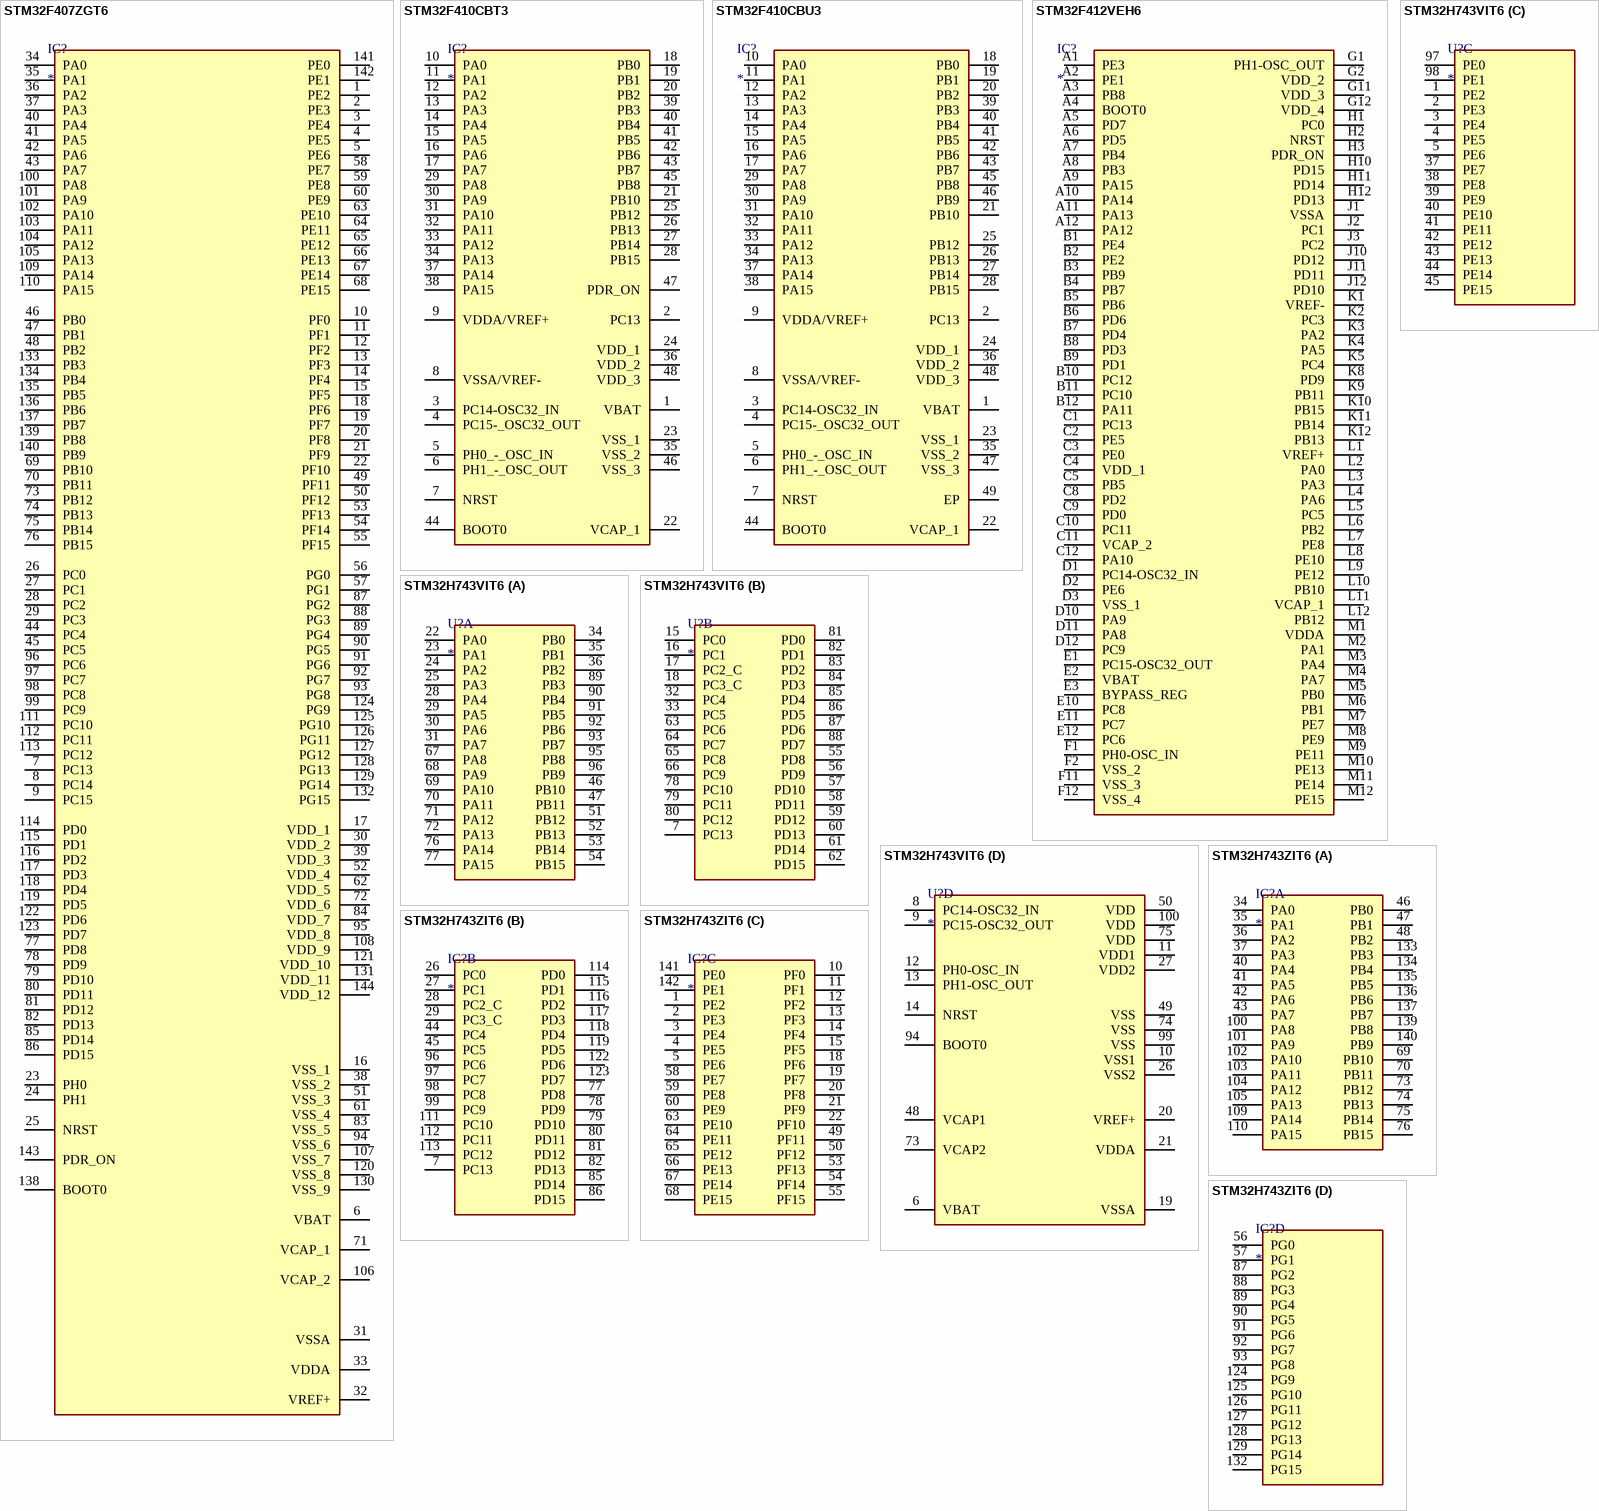
[diagram p43: symbols STM32F407ZGT6 to STM32H743ZIT6]

## STM32F407ZGT6
designator IC?
Integrated Circuit; Manufacturer_Name: STMicroelectronics; Manufacturer_Part_Number: STM32F407ZGT6; Datasheet Link: http://www.st.com/web/en/resource/technical/document/datasheet/DM00037051.pdf; Height: 1.6mm; Mouser Part Number: 511-STM32F407ZGT6; Mouser Price/Stock: https://www.mouser.co.uk/ProductDetail/STMicroelectronics/STM32F407ZGT6?qs=Z8%252BeY1k3TIKo142SZNWnSQ%3D%3D; Arrow Part Number: STM32F407ZGT6; Arrow Price/Stock: https://www.arrow.com/en/products/stm32f407zgt6/stmicroelectronics?region=nac
footprint QFP50P2200X2200X160-144N
pins: 1 PE2, 2 PE3, 3 PE4, 4 PE5, 5 PE6, 6 VBAT, 7 PC13, 8 PC14, 9 PC15, 10 PF0, 11 PF1, 12 PF2, 13 PF3, 14 PF4, 15 PF5, 16 VSS_1, 17 VDD_1, 18 PF6, 19 PF7, 20 PF8, 21 PF9, 22 PF10, 23 PH0, 24 PH1, 25 NRST, 26 PC0, 27 PC1, 28 PC2, 29 PC3, 30 VDD_2, 31 VSSA, 32 VREF+, 33 VDDA, 34 PA0, 35 PA1, 36 PA2, 37 PA3, 38 VSS_2, 39 VDD_3, 40 PA4, 41 PA5, 42 PA6, 43 PA7, 44 PC4, 45 PC5, 46 PB0, 47 PB1, 48 PB2, 49 PF11, 50 PF12, 51 VSS_3, 52 VDD_4, 53 PF13, 54 PF14, 55 PF15, 56 PG0, 57 PG1, 58 PE7, 59 PE8, 60 PE9, 61 VSS_4, 62 VDD_5, 63 PE10, 64 PE11, 65 PE12, 66 PE13, 67 PE14, 68 PE15, 69 PB10, 70 PB11, 71 VCAP_1, 72 VDD_6, 73 PB12, 74 PB13, 75 PB14, 76 PB15, 77 PD8, 78 PD9, 79 PD10, 80 PD11, 81 PD12, 82 PD13, 83 VSS_5, 84 VDD_7, 85 PD14, 86 PD15, 87 PG2, 88 PG3, 89 PG4, 90 PG5, 91 PG6, 92 PG7, 93 PG8, 94 VSS_6, 95 VDD_8, 96 PC6, 97 PC7, 98 PC8, 99 PC9, 100 PA8, 101 PA9, 102 PA10, 103 PA11, 104 PA12, 105 PA13, 106 VCAP_2, 107 VSS_7, 108 VDD_9, 109 PA14, 110 PA15, 111 PC10, 112 PC11, 113 PC12, 114 PD0, 115 PD1, 116 PD2, 117 PD3, 118 PD4, 119 PD5, 120 VSS_8, 121 VDD_10, 122 PD6, 123 PD7, 124 PG9, 125 PG10, 126 PG11, 127 PG12, 128 PG13, 129 PG14, 130 VSS_9, 131 VDD_11, 132 PG15, 133 PB3, 134 PB4, 135 PB5, 136 PB6, 137 PB7, 138 BOOT0, 139 PB8, 140 PB9, 141 PE0, 142 PE1, 143 PDR_ON, 144 VDD_12

## STM32F410CBT3
designator IC?
Integrated Circuit; Manufacturer_Name: STMicroelectronics; Manufacturer_Part_Number: STM32F410CBT3; Datasheet Link: https://www.st.com/resource/en/datasheet/stm32f410cb.pdf; Height: 1.6mm; Mouser Part Number: 511-STM32F410CBT3; Mouser Price/Stock: https://www.mouser.co.uk/ProductDetail/STMicroelectronics/STM32F410CBT3?qs=aVyJF2WnouRcCwtM3E6qMA%3D%3D; Arrow Part Number: STM32F410CBT3; Arrow Price/Stock: https://www.arrow.com/en/products/stm32f410cbt3/stmicroelectronics?region=nac
footprint QFP50P900X900X160-48N
pins: 1 VBAT, 2 PC13, 3 PC14-OSC32_IN, 4 PC15-_OSC32_OUT, 5 PH0_-_OSC_IN, 6 PH1_-_OSC_OUT, 7 NRST, 8 VSSA/VREF-, 9 VDDA/VREF+, 10 PA0, 11 PA1, 12 PA2, 13 PA3, 14 PA4, 15 PA5, 16 PA6, 17 PA7, 18 PB0, 19 PB1, 20 PB2, 21 PB10, 22 VCAP_1, 23 VSS_1, 24 VDD_1, 25 PB12, 26 PB13, 27 PB14, 28 PB15, 29 PA8, 30 PA9, 31 PA10, 32 PA11, 33 PA12, 34 PA13, 35 VSS_2, 36 VDD_2, 37 PA14, 38 PA15, 39 PB3, 40 PB4, 41 PB5, 42 PB6, 43 PB7, 44 BOOT0, 45 PB8, 46 VSS_3, 47 PDR_ON, 48 VDD_3

## STM32F410CBU3
designator IC?
Integrated Circuit; Manufacturer_Name: STMicroelectronics; Manufacturer_Part_Number: STM32F410CBU3; Datasheet Link: https://mouser.componentsearchengine.com/Datasheets/1/STM32F410CBU3.pdf; Height: 0.8mm; Mouser Part Number: 511-STM32F410CBU3; Mouser Price/Stock: https://www.mouser.co.uk/ProductDetail/STMicroelectronics/STM32F410CBU3?qs=vdi0iO8H4N2mLP2BZX6peA%3D%3D; Arrow Part Number: STM32F410CBU3; Arrow Price/Stock: https://www.arrow.com/en/products/stm32f410cbu3/stmicroelectronics?region=nac
footprint QFN50P700X700X80-49N-D
pins: 1 VBAT, 2 PC13, 3 PC14-OSC32_IN, 4 PC15-_OSC32_OUT, 5 PH0_-_OSC_IN, 6 PH1_-_OSC_OUT, 7 NRST, 8 VSSA/VREF-, 9 VDDA/VREF+, 10 PA0, 11 PA1, 12 PA2, 13 PA3, 14 PA4, 15 PA5, 16 PA6, 17 PA7, 18 PB0, 19 PB1, 20 PB2, 21 PB10, 22 VCAP_1, 23 VSS_1, 24 VDD_1, 25 PB12, 26 PB13, 27 PB14, 28 PB15, 29 PA8, 30 PA9, 31 PA10, 32 PA11, 33 PA12, 34 PA13, 35 VSS_2, 36 VDD_2, 37 PA14, 38 PA15, 39 PB3, 40 PB4, 41 PB5, 42 PB6, 43 PB7, 44 BOOT0, 45 PB8, 46 PB9, 47 VSS_3, 48 VDD_3, 49 EP

## STM32F412VEH6
designator IC?
Integrated Circuit; Manufacturer_Name: STMicroelectronics; Manufacturer_Part_Number: STM32F412VEH6; Datasheet Link: https://www.st.com/resource/en/datasheet/stm32f412ve.pdf; Height: 0.6mm; Mouser Part Number: 511-STM32F412VEH6; Mouser Price/Stock: https://www.mouser.co.uk/ProductDetail/STMicroelectronics/STM32F412VEH6?qs=xwQlLnDx56DBogKHiTOukA%3D%3D; Arrow Part Number: STM32F412VEH6; Arrow Price/Stock: https://www.arrow.com/en/products/stm32f412veh6/stmicroelectronics?region=nac
footprint BGA100C50P12X12_700X700X60
pins: A1 PE3, A2 PE1, A3 PB8, A4 BOOT0, A5 PD7, A6 PD5, A7 PB4, A8 PB3, A9 PA15, A10 PA14, A11 PA13, A12 PA12, B1 PE4, B2 PE2, B3 PB9, B4 PB7, B5 PB6, B6 PD6, B7 PD4, B8 PD3, B9 PD1, B10 PC12, B11 PC10, B12 PA11, C1 PC13, C2 PE5, C3 PE0, C4 VDD_1, C5 PB5, C8 PD2, C9 PD0, C10 PC11, C11 VCAP_2, C12 PA10, D1 PC14-OSC32_IN, D2 PE6, D3 VSS_1, D10 PA9, D11 PA8, D12 PC9, E1 PC15-OSC32_OUT, E2 VBAT, E3 BYPASS_REG, E10 PC8, E11 PC7, E12 PC6, F1 PH0-OSC_IN, F2 VSS_2, F11 VSS_3, F12 VSS_4, G1 PH1-OSC_OUT, G2 VDD_2, G11 VDD_3, G12 VDD_4, H1 PC0, H2 NRST, H3 PDR_ON, H10 PD15, H11 PD14, H12 PD13, J1 VSSA, J2 PC1, J3 PC2, J10 PD12, J11 PD11, J12 PD10, K1 VREF-, K2 PC3, K3 PA2, K4 PA5, K5 PC4, K8 PD9, K9 PB11, K10 PB15, K11 PB14, K12 PB13, L1 VREF+, L2 PA0, L3 PA3, L4 PA6, L5 PC5, L6 PB2, L7 PE8, L8 PE10, L9 PE12, L10 PB10, L11 VCAP_1, L12 PB12, M1 VDDA, M2 PA1, M3 PA4, M4 PA7, M5 PB0, M6 PB1, M7 PE7, M8 PE9, M9 PE11, M10 PE13, M11 PE14, M12 PE15

## STM32H743VIT6
designator U?
Integrated Circuit; Manufacturer_Name: STMicroelectronics; Manufacturer_Part_Number: STM32H743VIT6; Datasheet Link: https://www.st.com/resource/en/datasheet/stm32h743vi.pdf; Height: 1.6mm; Mouser Part Number: 511-STM32H743VIT6; Mouser Price/Stock: https://www.mouser.co.uk/ProductDetail/STMicroelectronics/STM32H743VIT6?qs=FNcb6ahWXRw0Me5k2ZHgWw%3D%3D; Arrow Part Number: STM32H743VIT6; Arrow Price/Stock: https://www.arrow.com/en/products/stm32h743vit6/stmicroelectronics
footprint QFP50P1600X1600X160-100N
part A pins: 22 PA0, 23 PA1, 24 PA2, 25 PA3, 28 PA4, 29 PA5, 30 PA6, 31 PA7, 34 PB0, 35 PB1, 36 PB2, 46 PB10, 47 PB11, 51 PB12, 52 PB13, 53 PB14, 54 PB15, 67 PA8, 68 PA9, 69 PA10, 70 PA11, 71 PA12, 72 PA13, 76 PA14, 77 PA15, 89 PB3, 90 PB4, 91 PB5, 92 PB6, 93 PB7, 95 PB8, 96 PB9
part B pins: 7 PC13, 15 PC0, 16 PC1, 17 PC2_C, 18 PC3_C, 32 PC4, 33 PC5, 55 PD8, 56 PD9, 57 PD10, 58 PD11, 59 PD12, 60 PD13, 61 PD14, 62 PD15, 63 PC6, 64 PC7, 65 PC8, 66 PC9, 78 PC10, 79 PC11, 80 PC12, 81 PD0, 82 PD1, 83 PD2, 84 PD3, 85 PD4, 86 PD5, 87 PD6, 88 PD7
part C pins: 1 PE2, 2 PE3, 3 PE4, 4 PE5, 5 PE6, 37 PE7, 38 PE8, 39 PE9, 40 PE10, 41 PE11, 42 PE12, 43 PE13, 44 PE14, 45 PE15, 97 PE0, 98 PE1
part D pins: 6 VBAT, 8 PC14-OSC32_IN, 9 PC15-OSC32_OUT, 10 VSS1, 11 VDD1, 12 PH0-OSC_IN, 13 PH1-OSC_OUT, 14 NRST, 19 VSSA, 20 VREF+, 21 VDDA, 26 VSS2, 27 VDD2, 48 VCAP1, 49 VSS, 50 VDD, 73 VCAP2, 74 VSS, 75 VDD, 94 BOOT0, 99 VSS, 100 VDD

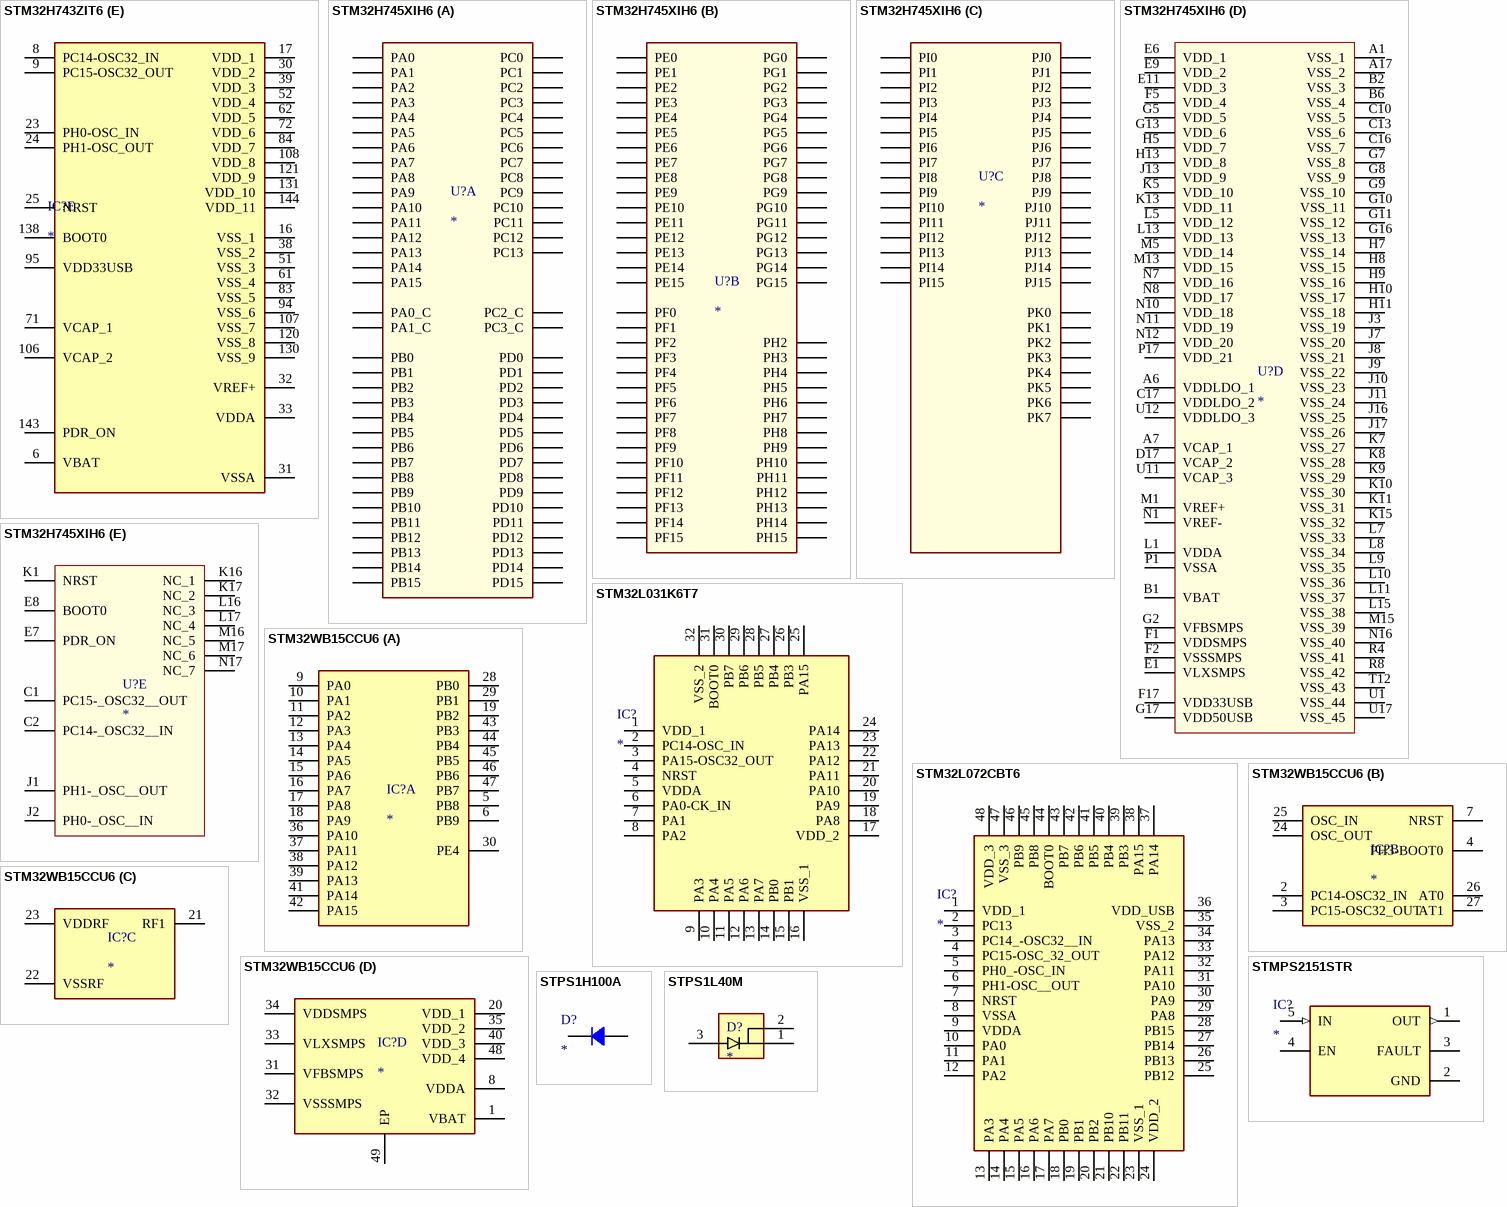
[diagram p44: symbols STM32H743ZIT6 to STPS1L40M]

## STM32H743ZIT6
designator IC?
Integrated Circuit; Manufacturer_Name: STMicroelectronics; Manufacturer_Part_Number: STM32H743ZIT6; Datasheet Link: https://www.st.com/resource/en/datasheet/stm32h743zi.pdf; Height: 1.6mm; Mouser Part Number: 511-STM32H743ZIT6; Mouser Price/Stock: https://www.mouser.co.uk/ProductDetail/STMicroelectronics/STM32H743ZIT6?qs=FNcb6ahWXRyuf15GdgTu%252Bw%3D%3D; Arrow Part Number: STM32H743ZIT6; Arrow Price/Stock: https://www.arrow.com/en/products/stm32h743zit6/stmicroelectronics?utm_currency=USD&region=nac
footprint QFP50P2200X2200X160-144N
part A pins: 34 PA0, 35 PA1, 36 PA2, 37 PA3, 40 PA4, 41 PA5, 42 PA6, 43 PA7, 46 PB0, 47 PB1, 48 PB2, 69 PB10, 70 PB11, 73 PB12, 74 PB13, 75 PB14, 76 PB15, 100 PA8, 101 PA9, 102 PA10, 103 PA11, 104 PA12, 105 PA13, 109 PA14, 110 PA15, 133 PB3, 134 PB4, 135 PB5, 136 PB6, 137 PB7, 139 PB8, 140 PB9
part B pins: 7 PC13, 26 PC0, 27 PC1, 28 PC2_C, 29 PC3_C, 44 PC4, 45 PC5, 77 PD8, 78 PD9, 79 PD10, 80 PD11, 81 PD12, 82 PD13, 85 PD14, 86 PD15, 96 PC6, 97 PC7, 98 PC8, 99 PC9, 111 PC10, 112 PC11, 113 PC12, 114 PD0, 115 PD1, 116 PD2, 117 PD3, 118 PD4, 119 PD5, 122 PD6, 123 PD7
part C pins: 1 PE2, 2 PE3, 3 PE4, 4 PE5, 5 PE6, 10 PF0, 11 PF1, 12 PF2, 13 PF3, 14 PF4, 15 PF5, 18 PF6, 19 PF7, 20 PF8, 21 PF9, 22 PF10, 49 PF11, 50 PF12, 53 PF13, 54 PF14, 55 PF15, 58 PE7, 59 PE8, 60 PE9, 63 PE10, 64 PE11, 65 PE12, 66 PE13, 67 PE14, 68 PE15, 141 PE0, 142 PE1
part D pins: 56 PG0, 57 PG1, 87 PG2, 88 PG3, 89 PG4, 90 PG5, 91 PG6, 92 PG7, 93 PG8, 124 PG9, 125 PG10, 126 PG11, 127 PG12, 128 PG13, 129 PG14, 132 PG15
part E pins: 6 VBAT, 8 PC14-OSC32_IN, 9 PC15-OSC32_OUT, 16 VSS_1, 17 VDD_1, 23 PH0-OSC_IN, 24 PH1-OSC_OUT, 25 NRST, 30 VDD_2, 31 VSSA, 32 VREF+, 33 VDDA, 38 VSS_2, 39 VDD_3, 51 VSS_3, 52 VDD_4, 61 VSS_4, 62 VDD_5, 71 VCAP_1, 72 VDD_6, 83 VSS_5, 84 VDD_7, 94 VSS_6, 95 VDD33USB, 106 VCAP_2, 107 VSS_7, 108 VDD_8, 120 VSS_8, 121 VDD_9, 130 VSS_9, 131 VDD_10, 138 BOOT0, 143 PDR_ON, 144 VDD_11

## STM32H745XIH6
designator U?
Integrated Circuit; Manufacturer_Name: STMicroelectronics; Manufacturer_Part_Number: STM32H745XIH6; Datasheet Link: https://www.st.com/resource/en/datasheet/stm32h745xi.pdf; Height: 1.1mm; Mouser Part Number: 511-STM32H745XIH6; Mouser Price/Stock: https://www.mouser.co.uk/ProductDetail/STMicroelectronics/STM32H745XIH6?qs=vLWxofP3U2zOl6AV%2FGPxYw%3D%3D; Arrow Part Number: STM32H745XIH6; Arrow Price/Stock: https://www.arrow.com/en/products/stm32h745xih6/stmicroelectronics?region=nac
footprint BGA265C80P17X17_1400X1400X110
part A pins: A5 PB5, A11 PD5, A12 PD4, A13 PC10, A14 PA15, B5 PB6, B7 PB4, B11 PD6, B12 PD3, B13 PC11, B14 PA14, C5 PB7, C6 PB3, C11 PD7, C12 PC12, C15 PA13, D4 PB9, D5 PB8, D12 PD2, D13 PD0, D14 PA10, D15 PA9, E3 PC13, E12 PD1, E13 PC8, E14 PC9, E15 PA8, E16 PA12, E17 PA11, F13 PC7, F14 PC6, L2 PC0, M2 PC1, M3 PC2, M4 PC3, N3 PA2, N4 PA1, N5 PA0, P11 PB10, P12 PB11, P15 PD15, P16 PD14, R1 PC2_C, R2 PC3_C, R3 PA6, R5 PA7, R6 PB2, R15 PD11, R16 PD12, R17 PD13, T1 PA0_C, T2 PA1_C, T3 PA5, T4 PC4, T5 PB1, T14 PB12, T15 PB15, T16 PD10, T17 PD9, U2 PA3, U3 PA4, U4 PC5, U5 PB0, U14 PB13, U15 PB14, U16 PD8
part B pins: A9 PG10, A10 PG9, B4 PE1, B9 PG11, B16 PH15, B17 PH14, C3 PE2, C4 PE0, C9 PG12, D1 PE5, D2 PE4, D3 PE3, D6 PG15, D8 PG14, D9 PG13, D16 PH13, E5 PE6, F15 PG8, F16 PG7, G1 PF2, G3 PF1, G4 PF0, G14 PG5, G15 PG6, H4 PF3, H14 PG4, H15 PG3, H16 PG2, J4 PF5, J5 PF4, K2 PF6, K3 PF7, K4 PF8, L3 PF10, L4 PF9, N2 PH2, N9 PE10, P2 PH3, P3 PH4, P4 PH5, P7 PF13, P8 PF14, P9 PE9, P10 PE11, P13 PH10, P14 PH11, R7 PF12, R9 PF15, R10 PE12, R11 PE15, R13 PH9, R14 PH12, T7 PF11, T8 PG0, T9 PE8, T10 PE13, T11 PH6, T13 PH8, U8 PG1, U9 PE7, U10 PE14, U13 PH7
part C pins: A2 PI6, A3 PI5, A4 PI4, A8 PK5, A15 PI1, A16 PI0, B3 PI7, B8 PK4, B10 PJ15, B15 PI2, C7 PK6, C8 PK3, C14 PI3, D7 PK7, D10 PJ14, D11 PJ12, E2 PI9, E4 PI8, E10 PJ13, F3 PI10, F4 PI11, H1 PI12, H2 PI13, H3 PI14, H17 PK2, J14 PK0, J15 PK1, K14 PJ11, L14 PJ10, M14 PJ9, N6 PJ0, N13 PJ8, N14 PJ7, N15 PJ6, P5 PI15, P6 PJ1, R12 PJ5, T6 PJ2, U6 PJ3, U7 PJ4
part D pins: A1 VSS_1, A6 VDDLDO_1, A7 VCAP_1, A17 VSS_2, B1 VBAT, B2 VSS_3, B6 VSS_4, C10 VSS_5, C13 VSS_6, C16 VSS_7, C17 VDDLDO_2, D17 VCAP_2, E1 VLXSMPS, E6 VDD_1, E9 VDD_2, E11 VDD_3, F1 VDDSMPS, F2 VSSSMPS, F5 VDD_4, F17 VDD33USB, G2 VFBSMPS, G5 VDD_5, G7 VSS_8, G8 VSS_9, G9 VSS_10, G10 VSS_11, G11 VSS_12, G13 VDD_6, G16 VSS_13, G17 VDD50USB, H5 VDD_7, H7 VSS_14, H8 VSS_15, H9 VSS_16, H10 VSS_17, H11 VSS_18, H13 VDD_8, J3 VSS_19, J7 VSS_20, J8 VSS_21, J9 VSS_22, J10 VSS_23, J11 VSS_24, J13 VDD_9, J16 VSS_25, J17 VSS_26, K5 VDD_10, K7 VSS_27, K8 VSS_28, K9 VSS_29, K10 VSS_30, K11 VSS_31, K13 VDD_11, K15 VSS_32, L1 VDDA, L5 VDD_12, L7 VSS_33, L8 VSS_34, L9 VSS_35, L10 VSS_36, L11 VSS_37, L13 VDD_13, L15 VSS_38, M1 VREF+, M5 VDD_14, M13 VDD_15, M15 VSS_39, N1 VREF-, N7 VDD_16, N8 VDD_17, N10 VDD_18, N11 VDD_19, N12 VDD_20, N16 VSS_40, P1 VSSA, P17 VDD_21, R4 VSS_41, R8 VSS_42, T12 VSS_43, U1 VSS_44, U11 VCAP_3, U12 VDDLDO_3, U17 VSS_45
part E pins: C1 PC15-_OSC32__OUT, C2 PC14-_OSC32__IN, E7 PDR_ON, E8 BOOT0, J1 PH1-_OSC__OUT, J2 PH0-_OSC__IN, K1 NRST, K16 NC_1, K17 NC_2, L16 NC_3, L17 NC_4, M16 NC_5, M17 NC_6, N17 NC_7

## STM32L031K6T7
designator IC?
Integrated Circuit; Manufacturer_Name: STMicroelectronics; Manufacturer_Part_Number: STM32L031K6T7; Datasheet Link: http://www.st.com/content/ccc/resource/technical/document/datasheet/aa/5d/77/ad/1a/59/4a/b9/DM00140359.pdf/files/DM00140359.pdf/jcr:content/translations/en.DM00140359.pdf; Height: 1.6mm; Mouser Part Number: 511-STM32L031K6T7; Mouser Price/Stock: https://www.mouser.co.uk/ProductDetail/STMicroelectronics/STM32L031K6T7?qs=qf2ddTMq67XoEgfC%252BBv82Q%3D%3D; Arrow Part Number: STM32L031K6T7; Arrow Price/Stock: https://www.arrow.com/en/products/stm32l031k6t7/stmicroelectronics?region=nac
footprint QFP80P900X900X160-32N
pins: 1 VDD_1, 2 PC14-OSC_IN, 3 PA15-OSC32_OUT, 4 NRST, 5 VDDA, 6 PA0-CK_IN, 7 PA1, 8 PA2, 9 PA3, 10 PA4, 11 PA5, 12 PA6, 13 PA7, 14 PB0, 15 PB1, 16 VSS_1, 17 VDD_2, 18 PA8, 19 PA9, 20 PA10, 21 PA11, 22 PA12, 23 PA13, 24 PA14, 25 PA15, 26 PB3, 27 PB4, 28 PB5, 29 PB6, 30 PB7, 31 BOOT0, 32 VSS_2

## STM32L072CBT6
designator IC?
Integrated Circuit; Manufacturer_Name: STMicroelectronics; Manufacturer_Part_Number: STM32L072CBT6; Datasheet Link: https://www.st.com/resource/en/datasheet/stm32l072cb.pdf; Height: 1.6mm; Mouser Part Number: 511-STM32L072CBT6; Mouser Price/Stock: https://www.mouser.co.uk/ProductDetail/STMicroelectronics/STM32L072CBT6?qs=dTJS0cRn7ojAyJ%2FoC1SuOQ%3D%3D; Arrow Part Number: STM32L072CBT6; Arrow Price/Stock: https://www.arrow.com/en/products/stm32l072cbt6/stmicroelectronics?region=nac
footprint QFP50P900X900X160-48N
pins: 1 VDD_1, 2 PC13, 3 PC14_-OSC32__IN, 4 PC15-OSC_32_OUT, 5 PH0_-OSC_IN, 6 PH1-OSC__OUT, 7 NRST, 8 VSSA, 9 VDDA, 10 PA0, 11 PA1, 12 PA2, 13 PA3, 14 PA4, 15 PA5, 16 PA6, 17 PA7, 18 PB0, 19 PB1, 20 PB2, 21 PB10, 22 PB11, 23 VSS_1, 24 VDD_2, 25 PB12, 26 PB13, 27 PB14, 28 PB15, 29 PA8, 30 PA9, 31 PA10, 32 PA11, 33 PA12, 34 PA13, 35 VSS_2, 36 VDD_USB, 37 PA14, 38 PA15, 39 PB3, 40 PB4, 41 PB5, 42 PB6, 43 PB7, 44 BOOT0, 45 PB8, 46 PB9, 47 VSS_3, 48 VDD_3

## STM32WB15CCU6
designator IC?
Integrated Circuit; Manufacturer_Name: STMicroelectronics; Manufacturer_Part_Number: STM32WB15CCU6; Datasheet Link: https://www.mouser.de/datasheet/2/389/dm00687952-2400695.pdf; Height: 0.6mm; Mouser Part Number: 511-STM32WB15CCU6; Mouser Price/Stock: https://www.mouser.co.uk/ProductDetail/STMicroelectronics/STM32WB15CCU6?qs=DRkmTr78QATikAob%252BX8G8A%3D%3D; Arrow Part Number: STM32WB15CCU6; Arrow Price/Stock: https://www.arrow.com/en/products/stm32wb15ccu6/stmicroelectronics?region=nac
footprint QFN50P700X700X60-49N-D
part A pins: 5 PB8, 6 PB9, 9 PA0, 10 PA1, 11 PA2, 12 PA3, 13 PA4, 14 PA5, 15 PA6, 16 PA7, 17 PA8, 18 PA9, 19 PB2, 28 PB0, 29 PB1, 30 PE4, 36 PA10, 37 PA11, 38 PA12, 39 PA13, 41 PA14, 42 PA15, 43 PB3, 44 PB4, 45 PB5, 46 PB6, 47 PB7
part B pins: 2 PC14-OSC32_IN, 3 PC15-OSC32_OUT, 4 PH3-BOOT0, 7 NRST, 24 OSC_OUT, 25 OSC_IN, 26 AT0, 27 AT1
part C pins: 21 RF1, 22 VSSRF, 23 VDDRF
part D pins: 1 VBAT, 8 VDDA, 20 VDD_1, 31 VFBSMPS, 32 VSSSMPS, 33 VLXSMPS, 34 VDDSMPS, 35 VDD_2, 40 VDD_3, 48 VDD_4, 49 EP

## STMPS2151STR
designator IC?
Integrated Circuit; Manufacturer_Name: STMicroelectronics; Manufacturer_Part_Number: STMPS2151STR; Datasheet Link: http://docs-emea.rs-online.com/webdocs/140d/0900766b8140da90.pdf; Height: 1.45mm; Mouser Part Number: 511-STMPS2151STR; Mouser Price/Stock: https://www.mouser.co.uk/ProductDetail/STMicroelectronics/STMPS2151STR?qs=qolwYojYp3THidumZGqCjQ%3D%3D; Arrow Part Number: STMPS2151STR; Arrow Price/Stock: https://www.arrow.com/en/products/stmps2151str/stmicroelectronics?region=nac
footprint SOT95P280X145-5N
pins: 1 OUT (out), 2 GND (power), 3 FAULT, 4 EN, 5 IN (in)

## STPS1H100A
designator D?
Diode; Manufacturer_Name: STMicroelectronics; Manufacturer_Part_Number: STPS1H100A; Datasheet Link: http://www.st.com/web/en/resource/technical/document/datasheet/CD00001304.pdf; Height: 2.65mm; Mouser Part Number: 511-STPS1H100A; Mouser Price/Stock: https://www.mouser.co.uk/ProductDetail/STMicroelectronics/STPS1H100A?qs=DEIWxvUoIVyfsL0cdutZgg%3D%3D; Arrow Part Number: STPS1H100A; Arrow Price/Stock: https://www.arrow.com/en/products/stps1h100a/stmicroelectronics
footprint DIOM5126X265N
pins: 1, 2 12

## STPS1L40M
designator D?
Schottky Diode; Manufacturer_Name: STMicroelectronics; Manufacturer_Part_Number: STPS1L40M; Datasheet Link: http://www.st.com/content/ccc/resource/technical/document/datasheet/62/69/a4/97/73/11/43/c2/CD00003015.pdf/files/CD00003015.pdf/jcr:content/translations/en.CD00003015.pdf; Height: 1mm; Mouser Part Number: 511-STPS1L40M; Mouser Price/Stock: https://www.mouser.co.uk/ProductDetail/STMicroelectronics/STPS1L40M?qs=1tTY8DFIKADyj1WerxBVhA%3D%3D; Arrow Part Number: STPS1L40M; Arrow Price/Stock: https://www.arrow.com/en/products/stps1l40m/stmicroelectronics
footprint STPS1L40M
pins: 1 K_1, 2 K_2, 3 A

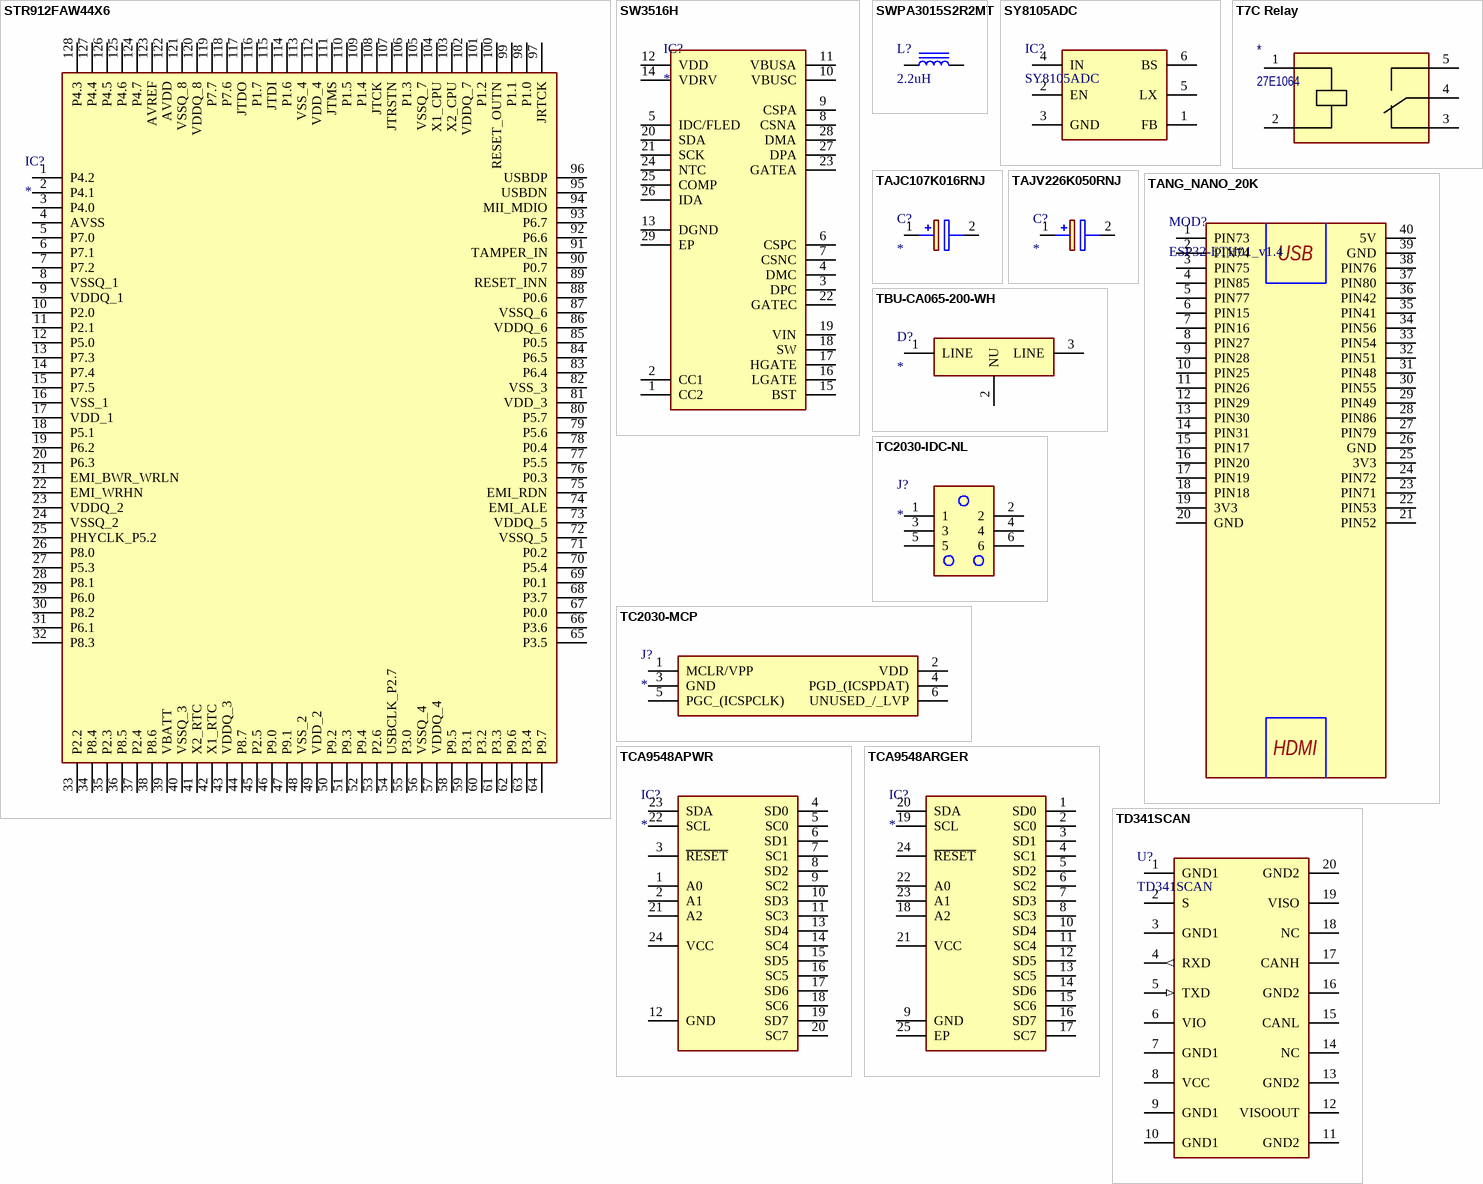
[diagram p45: symbols STR912FAW44X6 to TD341SCAN]

## STR912FAW44X6
designator IC?
Integrated Circuit; Manufacturer_Name: STMicroelectronics; Manufacturer_Part_Number: STR912FAW44X6; Datasheet Link: https://datasheet.datasheetarchive.com/originals/distributors/Datasheets-DGA25/1728490.pdf; Height: 1.6mm; Mouser Part Number: 511-STR912FAW44X6; Mouser Price/Stock: https://www.mouser.co.uk/ProductDetail/STMicroelectronics/STR912FAW44X6?qs=A09LVk8FdlJqRV16XEzRIg%3D%3D; Arrow Part Number: STR912FAW44X6; Arrow Price/Stock: https://www.arrow.com/en/products/str912faw44x6/stmicroelectronics
footprint QFP40P1600X1600X160-128N
pins: 1 P4.2, 2 P4.1, 3 P4.0, 4 AVSS, 5 P7.0, 6 P7.1, 7 P7.2, 8 VSSQ_1, 9 VDDQ_1, 10 P2.0, 11 P2.1, 12 P5.0, 13 P7.3, 14 P7.4, 15 P7.5, 16 VSS_1, 17 VDD_1, 18 P5.1, 19 P6.2, 20 P6.3, 21 EMI_BWR_WRLN, 22 EMI_WRHN, 23 VDDQ_2, 24 VSSQ_2, 25 PHYCLK_P5.2, 26 P8.0, 27 P5.3, 28 P8.1, 29 P6.0, 30 P8.2, 31 P6.1, 32 P8.3, 33 P2.2, 34 P8.4, 35 P2.3, 36 P8.5, 37 P2.4, 38 P8.6, 39 VBATT, 40 VSSQ_3, 41 X2_RTC, 42 X1_RTC, 43 VDDQ_3, 44 P8.7, 45 P2.5, 46 P9.0, 47 P9.1, 48 VSS_2, 49 VDD_2, 50 P9.2, 51 P9.3, 52 P9.4, 53 P2.6, 54 USBCLK_P2.7, 55 P3.0, 56 VSSQ_4, 57 VDDQ_4, 58 P9.5, 59 P3.1, 60 P3.2, 61 P3.3, 62 P9.6, 63 P3.4, 64 P9.7, 65 P3.5, 66 P3.6, 67 P0.0, 68 P3.7, 69 P0.1, 70 P5.4, 71 P0.2, 72 VSSQ_5, 73 VDDQ_5, 74 EMI_ALE, 75 EMI_RDN, 76 P0.3, 77 P5.5, 78 P0.4, 79 P5.6, 80 P5.7, 81 VDD_3, 82 VSS_3, 83 P6.4, 84 P6.5, 85 P0.5, 86 VDDQ_6, 87 VSSQ_6, 88 P0.6, 89 RESET_INN, 90 P0.7, 91 TAMPER_IN, 92 P6.6, 93 P6.7, 94 MII_MDIO, 95 USBDN, 96 USBDP, 97 JRTCK, 98 P1.0, 99 P1.1, 100 RESET_OUTN, 101 P1.2, 102 VDDQ_7, 103 X2_CPU, 104 X1_CPU, 105 VSSQ_7, 106 P1.3, 107 JTRSTN, 108 JTCK, 109 P1.4, 110 P1.5, 111 JTMS, 112 VDD_4, 113 VSS_4, 114 P1.6, 115 JTDI, 116 P1.7, 117 JTDO, 118 P7.6, 119 P7.7, 120 VDDQ_8, 121 VSSQ_8, 122 AVDD, 123 AVREF, 124 P4.7, 125 P4.6, 126 P4.5, 127 P4.4, 128 P4.3

## SW3516H
designator IC?
Integrated Circuit; Manufacturer_Name: Zuhai; Manufacturer_Part_Number: SW3516H; Datasheet Link: https://datasheet.lcsc.com/lcsc/1912111437_ISMARTWARE-SW3516H_C406808.pdf; Height: 0.8mm
footprint QFN40P400X400X80-29N-D
pins: 1 CC2, 2 CC1, 3 DPC, 4 DMC, 5 IDC/FLED, 6 CSPC, 7 CSNC, 8 CSNA, 9 CSPA, 10 VBUSC, 11 VBUSA, 12 VDD, 13 DGND, 14 VDRV, 15 BST, 16 LGATE, 17 HGATE, 18 SW, 19 VIN, 20 SDA, 21 SCK, 22 GATEC, 23 GATEA, 24 NTC, 25 COMP, 26 IDA, 27 DPA, 28 DMA, 29 EP

## SWPA3015S2R2MT
designator L?, comment 2.2uH
SMT Inductor; Value: 2.2uH
footprint SDR1307-220ML
pins: 1, 2

## SY8105ADC
designator IC?
Integrated Circuit, DCDC Converter; Manufacturer_Name: Silergy Corp; Datasheet Link: https://datasheet.lcsc.com/lcsc/1810010618_INJOINIC-IP2163_C185473.pdf; Height: 1mm; Manufacturer_Part_Number: SY8105ADC; JLCPCB Part Number: C178247
footprint SOT95P280X110-6N
pins: 1 FB, 2 EN, 3 GND, 4 IN, 5 LX, 6 BS

## T7C Relay
designator *, comment 27E1064
Relay, PCB, 1NO, 1NC; Manufacturer: TE Connectivity; Parameter 1: 27E1064 Socket; Parameter 2: 20C430 Spring; Parameter 3: T7C Relay Series
pins: 1 COIL_1, 2 NC, 3 NO, 4 COIL_2, 5 COM

## TAJC107K016RNJ
designator C?
Capacitor Polarised; Manufacturer_Name: AVX; Manufacturer_Part_Number: TAJC107K016RNJ; Datasheet Link: http://datasheets.avx.com/TAJ.pdf; Height: 2.8mm; Mouser Part Number: 581-TAJC107K016RNJ; Mouser Price/Stock: https://www.mouser.co.uk/ProductDetail/AVX/TAJC107K016RNJ?qs=n0G5RV3mHfO23z2twubHnw%3D%3D; Arrow Part Number: TAJC107K016RNJ; Arrow Price/Stock: https://www.arrow.com/en/products/tajc107k016rnj/avx
footprint CAPPM6032X280N
pins: 1 +, 2 -

## TAJV226K050RNJ
designator C?
Capacitor Polarised; Manufacturer_Name: Kyocera AVX; Manufacturer_Part_Number: TAJV226K050RNJ; Datasheet Link: https://www.arrow.com/en/products/tajv226k050rnj/avx; Height: 3.75mm; Mouser Part Number: 581-TAJV226K050; Mouser Price/Stock: https://www.mouser.co.uk/ProductDetail/AVX/TAJV226K050RNJ?qs=Wtp%252Bf%2FAeVqJ7BFNT%2FYDviw%3D%3D; Arrow Part Number: TAJV226K050RNJ; Arrow Price/Stock: https://www.arrow.com/en/products/tajv226k050rnj/avx
footprint CAPPM7362X375N
pins: 1 +, 2 -

## TANG_NANO_20K
designator MOD?, comment ESP32-ETH01_v1.4
MODULE ESP32; Manufacturer_Name: Espressif Systems; Manufacturer_Part_Number: ESP32-ETH01_v14
footprint TANG_NANO_20K
pins: 1 PIN73, 2 PIN74, 3 PIN75, 4 PIN85, 5 PIN77, 6 PIN15, 7 PIN16, 8 PIN27, 9 PIN28, 10 PIN25, 11 PIN26, 12 PIN29, 13 PIN30, 14 PIN31, 15 PIN17, 16 PIN20, 17 PIN19, 18 PIN18, 19 3V3, 20 GND, 21 PIN52, 22 PIN53, 23 PIN71, 24 PIN72, 25 3V3, 26 GND, 27 PIN79, 28 PIN86, 29 PIN49, 30 PIN55, 31 PIN48, 32 PIN51, 33 PIN54, 34 PIN56, 35 PIN41, 36 PIN42, 37 PIN80, 38 PIN76, 39 GND, 40 5V
text: USB; HDMI

## TBU-CA065-200-WH
designator D?
TVS Diode (Bi-directional); Manufacturer_Name: Bourns; Manufacturer_Part_Number: TBU-CA065-200-WH; Datasheet Link: https://www.bourns.com/data/global/pdfs/TBU-CA.pdf; Height: 1mm; Mouser Part Number: 652-TBU-CA065-200-WH; Mouser Price/Stock: https://www.mouser.co.uk/ProductDetail/Bourns/TBU-CA065-200-WH?qs=kLtMOTa49OkdVs42fYbv8A%3D%3D; Arrow Part Number: TBU-CA065-200-WH; Arrow Price/Stock: https://www.arrow.com/en/products/tbu-ca065-200-wh/bourns?region=nac
footprint TBUCA025050WH
pins: 1 LINE, 2 NU, 3 LINE

## TC2030-IDC-NL
designator J?  (no BOM)
Connector; Manufacturer_Name: Tag Connect; Manufacturer_Part_Number: TC2030-IDC-NL; Height: 18.669mm
footprint TC2030IDCNL
pins: 1, 2, 3, 4, 5, 6

## TC2030-MCP
designator J?  (no BOM)
Connector; Manufacturer_Name: Tag Connect; Manufacturer_Part_Number: TC2030-MCP; Datasheet Link: https://datasheet.datasheetarchive.com/originals/distributors/Datasheets_SAMA/eee374929cd7518d6d3464b8148cd1bf.pdf; Height: 18.669mm
footprint TC2030MCP
pins: 1 MCLR/VPP, 2 VDD, 3 GND, 4 PGD_(ICSPDAT), 5 PGC_(ICSPCLK), 6 UNUSED_/_LVP

## TCA9548APWR
designator IC?
Integrated Circuit; Manufacturer_Name: Texas Instruments; Manufacturer_Part_Number: TCA9548APWR; Datasheet Link: http://www.ti.com/lit/ds/symlink/tca9548a.pdf; Height: 1.2mm; Mouser Part Number: 595-TCA9548APWR; Mouser Price/Stock: https://www.mouser.co.uk/ProductDetail/Texas-Instruments/TCA9548APWR?qs=iFaFN7AS2WF%252BqSiJMbdYwQ%3D%3D; Arrow Part Number: TCA9548APWR; Arrow Price/Stock: https://www.arrow.com/en/products/tca9548apwr/texas-instruments?utm_currency=USD&region=nac
footprint SOP65P640X120-24N
pins: 1 A0, 2 A1, 3 ~{RESET}, 4 SD0, 5 SC0, 6 SD1, 7 SC1, 8 SD2, 9 SC2, 10 SD3, 11 SC3, 12 GND, 13 SD4, 14 SC4, 15 SD5, 16 SC5, 17 SD6, 18 SC6, 19 SD7, 20 SC7, 21 A2, 22 SCL, 23 SDA, 24 VCC